# Altium integrated library Altera Cyclone II.IntLib: 234 symbols (part 16 of 38)
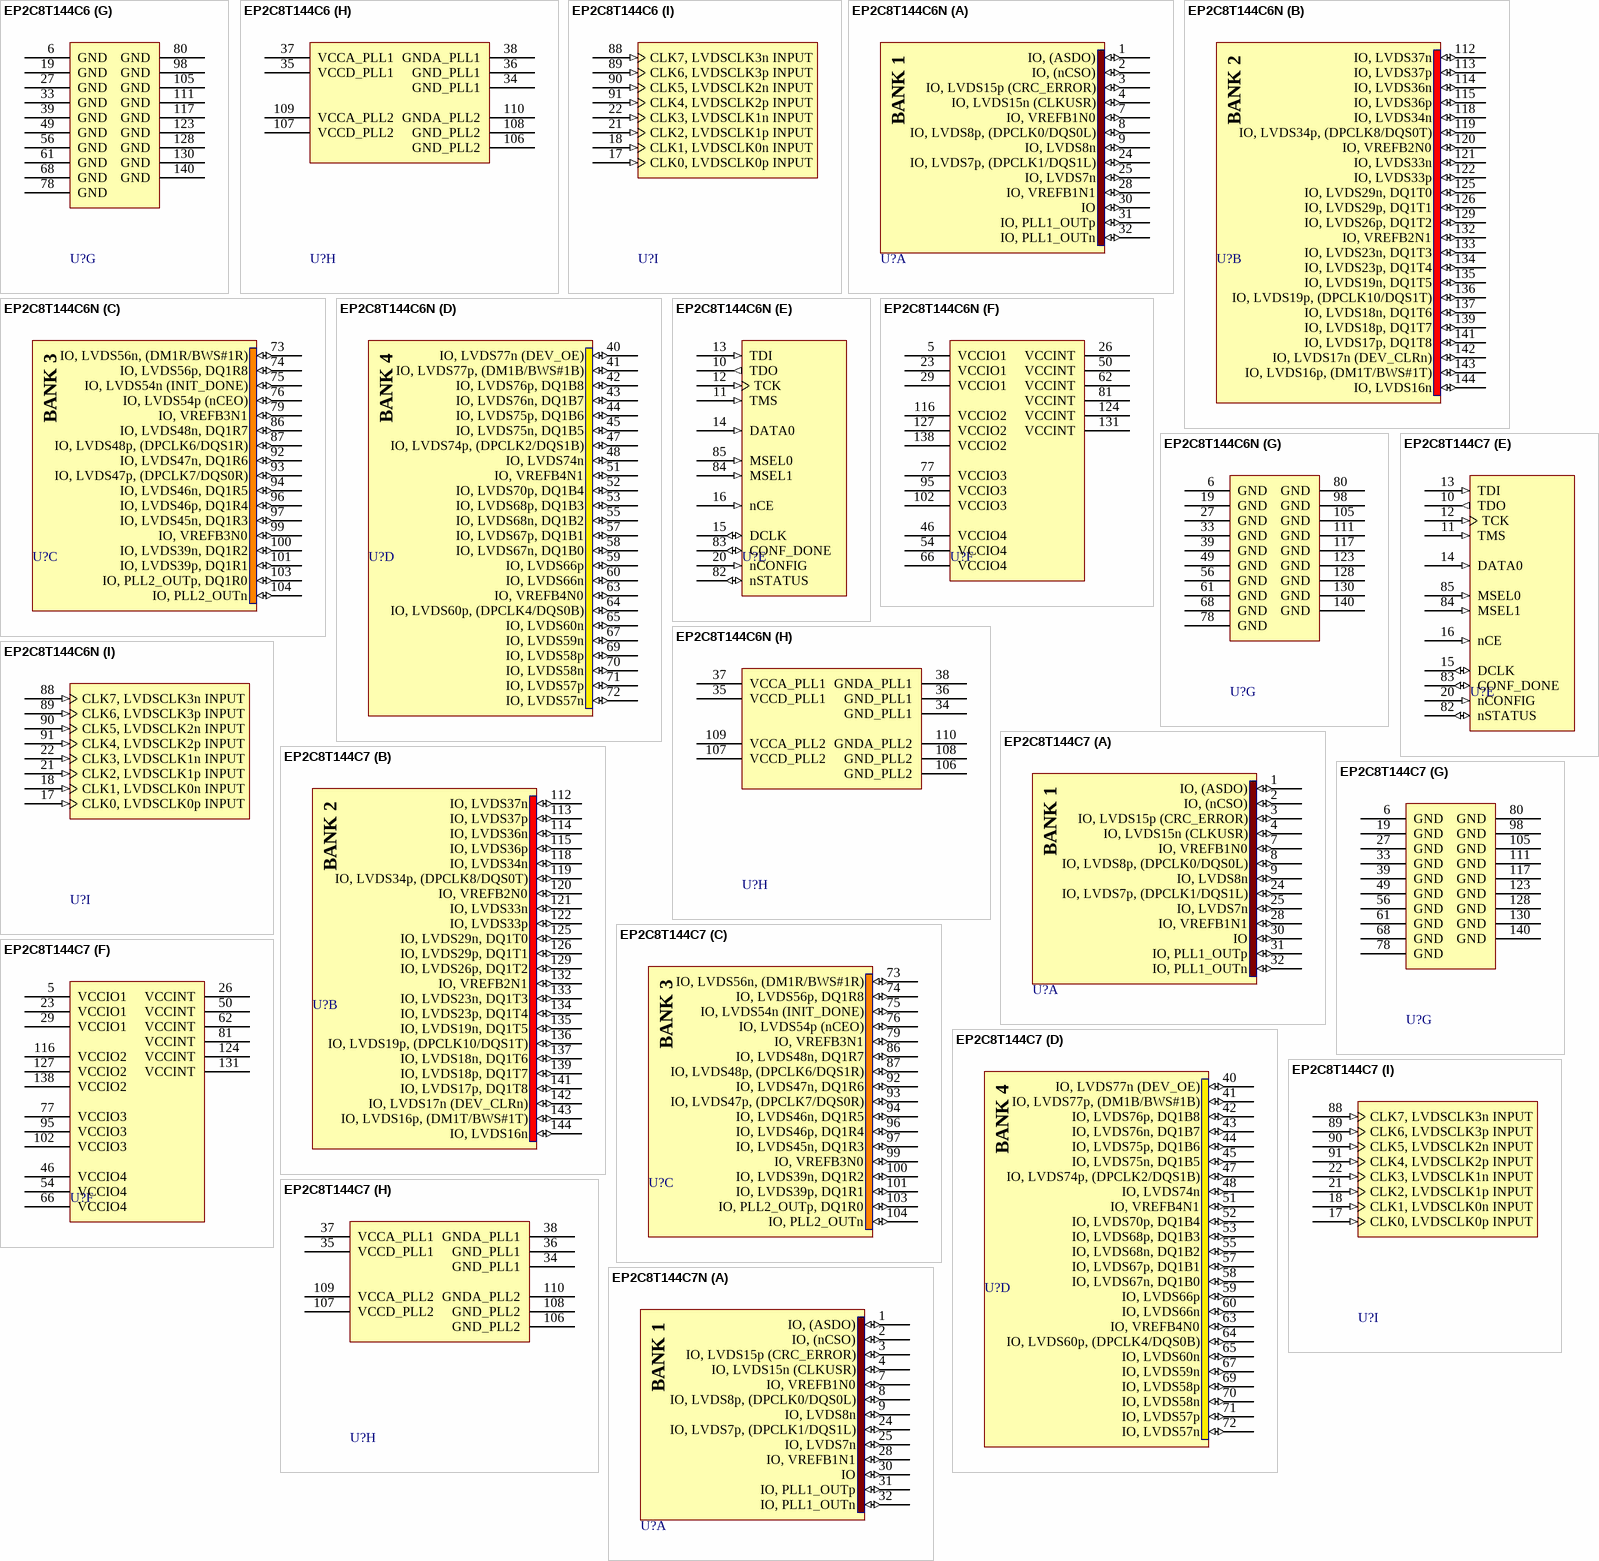
[diagram p407: symbols EP2C8T144C6 to EP2C8T144C7N]

## EP2C8T144C6
designator U?
Cyclone II Family, 1.2V FPGA, 85 I/O Pins, 2 PLLs, 144-Pin TQFP, Speed Grade 6, Commercial Grade; DatasheetVersion: ver3.3, Feb-2008; PackageVersion: ver16.3, Dec-2010; PackageReference: TQFP144; PackageDescription: 144-Pin Plastic Thin Quad Flat Pack (TQFP144) - Wire Bond; Code_JEDEC: MS-026-BFB; ComponentLink1Description: Manufacturer URL; ComponentLink1URL: http://www.altera.com/; ComponentLink2Description: Handbook; ComponentLink2URL: http://www.altera.com/literature/hb/cyc2/cyc2_cii5v1.pdf; ComponentLink3Description: Package Specification; ComponentLink3URL: http://www.altera.com/literature/ds/dspkg.pdf
footprint TQFP144_N (Thin QFP, 144-Leads, Body 20x20mm, Pitch 0.5mm, IPC Medium Density)
footprint TQFP144_L (Thin QFP, 144-Leads, Body 20x20mm, Pitch 0.5mm, IPC High Density)
footprint TQFP144_M (Thin QFP, 144-Leads, Body 20x20mm, Pitch 0.5mm, IPC Low Density)
part A pins: 1 IO, (ASDO) (io), 2 IO, (nCSO) (io), 3 IO, LVDS15p (CRC_ERROR) (io), 4 IO, LVDS15n (CLKUSR) (io), 7 IO, VREFB1N0 (io), 8 IO, LVDS8p, (DPCLK0/DQS0L) (io), 9 IO, LVDS8n (io), 24 IO, LVDS7p, (DPCLK1/DQS1L) (io), 25 IO, LVDS7n (io), 28 IO, VREFB1N1 (io), 30 IO (io), 31 IO, PLL1_OUTp (io), 32 IO, PLL1_OUTn (io)
part B pins: 112 IO, LVDS37n (io), 113 IO, LVDS37p (io), 114 IO, LVDS36n (io), 115 IO, LVDS36p (io), 118 IO, LVDS34n (io), 119 IO, LVDS34p, (DPCLK8/DQS0T) (io), 120 IO, VREFB2N0 (io), 121 IO, LVDS33n (io), 122 IO, LVDS33p (io), 125 IO, LVDS29n, DQ1T0 (io), 126 IO, LVDS29p, DQ1T1 (io), 129 IO, LVDS26p, DQ1T2 (io), 132 IO, VREFB2N1 (io), 133 IO, LVDS23n, DQ1T3 (io), 134 IO, LVDS23p, DQ1T4 (io), 135 IO, LVDS19n, DQ1T5 (io), 136 IO, LVDS19p, (DPCLK10/DQS1T) (io), 137 IO, LVDS18n, DQ1T6 (io), 139 IO, LVDS18p, DQ1T7 (io), 141 IO, LVDS17p, DQ1T8 (io), 142 IO, LVDS17n (DEV_CLRn) (io), 143 IO, LVDS16p, (DM1T/BWS#1T) (io), 144 IO, LVDS16n (io)
part C pins: 73 IO, LVDS56n, (DM1R/BWS#1R) (io), 74 IO, LVDS56p, DQ1R8 (io), 75 IO, LVDS54n (INIT_DONE) (io), 76 IO, LVDS54p (nCEO) (io), 79 IO, VREFB3N1 (io), 86 IO, LVDS48n, DQ1R7 (io), 87 IO, LVDS48p, (DPCLK6/DQS1R) (io), 92 IO, LVDS47n, DQ1R6 (io), 93 IO, LVDS47p, (DPCLK7/DQS0R) (io), 94 IO, LVDS46n, DQ1R5 (io), 96 IO, LVDS46p, DQ1R4 (io), 97 IO, LVDS45n, DQ1R3 (io), 99 IO, VREFB3N0 (io), 100 IO, LVDS39n, DQ1R2 (io), 101 IO, LVDS39p, DQ1R1 (io), 103 IO, PLL2_OUTp, DQ1R0 (io), 104 IO, PLL2_OUTn (io)
part D pins: 40 IO, LVDS77n (DEV_OE) (io), 41 IO, LVDS77p, (DM1B/BWS#1B) (io), 42 IO, LVDS76p, DQ1B8 (io), 43 IO, LVDS76n, DQ1B7 (io), 44 IO, LVDS75p, DQ1B6 (io), 45 IO, LVDS75n, DQ1B5 (io), 47 IO, LVDS74p, (DPCLK2/DQS1B) (io), 48 IO, LVDS74n (io), 51 IO, VREFB4N1 (io), 52 IO, LVDS70p, DQ1B4 (io), 53 IO, LVDS68p, DQ1B3 (io), 55 IO, LVDS68n, DQ1B2 (io), 57 IO, LVDS67p, DQ1B1 (io), 58 IO, LVDS67n, DQ1B0 (io), 59 IO, LVDS66p (io), 60 IO, LVDS66n (io), 63 IO, VREFB4N0 (io), 64 IO, LVDS60p, (DPCLK4/DQS0B) (io), 65 IO, LVDS60n (io), 67 IO, LVDS59n (io), 69 IO, LVDS58p (io), 70 IO, LVDS58n (io), 71 IO, LVDS57p (io), 72 IO, LVDS57n (io)
part E pins: 10 TDO (out), 11 TMS (in), 12 TCK (in), 13 TDI (in), 14 DATA0 (in), 15 DCLK (io), 16 nCE (in), 20 nCONFIG (in), 82 nSTATUS (io), 83 CONF_DONE (io), 84 MSEL1 (in), 85 MSEL0 (in)
part F pins: 5 VCCIO1 (power), 23 VCCIO1 (power), 26 VCCINT (power), 29 VCCIO1 (power), 46 VCCIO4 (power), 50 VCCINT (power), 54 VCCIO4 (power), 62 VCCINT (power), 66 VCCIO4 (power), 77 VCCIO3 (power), 81 VCCINT (power), 95 VCCIO3 (power), 102 VCCIO3 (power), 116 VCCIO2 (power), 124 VCCINT (power), 127 VCCIO2 (power), 131 VCCINT (power), 138 VCCIO2 (power)
part G pins: 6 GND (power), 19 GND (power), 27 GND (power), 33 GND (power), 39 GND (power), 49 GND (power), 56 GND (power), 61 GND (power), 68 GND (power), 78 GND (power), 80 GND (power), 98 GND (power), 105 GND (power), 111 GND (power), 117 GND (power), 123 GND (power), 128 GND (power), 130 GND (power), 140 GND (power)
part H pins: 34 GND_PLL1 (power), 35 VCCD_PLL1 (power), 36 GND_PLL1 (power), 37 VCCA_PLL1 (power), 38 GNDA_PLL1 (power), 106 GND_PLL2 (power), 107 VCCD_PLL2 (power), 108 GND_PLL2 (power), 109 VCCA_PLL2 (power), 110 GNDA_PLL2 (power)
part I pins: 17 CLK0, LVDSCLK0p INPUT (in), 18 CLK1, LVDSCLK0n INPUT (in), 21 CLK2, LVDSCLK1p INPUT (in), 22 CLK3, LVDSCLK1n INPUT (in), 88 CLK7, LVDSCLK3n INPUT (in), 89 CLK6, LVDSCLK3p INPUT (in), 90 CLK5, LVDSCLK2n INPUT (in), 91 CLK4, LVDSCLK2p INPUT (in)
part A text: BANK 1
part B text: BANK 2
part C text: BANK 3
part D text: BANK 4

## EP2C8T144C6N
designator U?
Cyclone II Family, 1.2V FPGA, 85 I/O Pins, 2 PLLs, 144-Pin TQFP, Speed Grade 6, Commercial Grade, Pb-Free; DatasheetVersion: ver3.3, Feb-2008; PackageVersion: ver16.3, Dec-2010; PackageReference: TQFP144; PackageDescription: 144-Pin Plastic Thin Quad Flat Pack (TQFP144) - Wire Bond; Code_JEDEC: MS-026-BFB; ComponentLink1Description: Manufacturer URL; ComponentLink1URL: http://www.altera.com/; ComponentLink2Description: Handbook; ComponentLink2URL: http://www.altera.com/literature/hb/cyc2/cyc2_cii5v1.pdf; ComponentLink3Description: Package Specification; ComponentLink3URL: http://www.altera.com/literature/ds/dspkg.pdf
footprint TQFP144_N (Thin QFP, 144-Leads, Body 20x20mm, Pitch 0.5mm, IPC Medium Density)
footprint TQFP144_L (Thin QFP, 144-Leads, Body 20x20mm, Pitch 0.5mm, IPC High Density)
footprint TQFP144_M (Thin QFP, 144-Leads, Body 20x20mm, Pitch 0.5mm, IPC Low Density)
part A pins: 1 IO, (ASDO) (io), 2 IO, (nCSO) (io), 3 IO, LVDS15p (CRC_ERROR) (io), 4 IO, LVDS15n (CLKUSR) (io), 7 IO, VREFB1N0 (io), 8 IO, LVDS8p, (DPCLK0/DQS0L) (io), 9 IO, LVDS8n (io), 24 IO, LVDS7p, (DPCLK1/DQS1L) (io), 25 IO, LVDS7n (io), 28 IO, VREFB1N1 (io), 30 IO (io), 31 IO, PLL1_OUTp (io), 32 IO, PLL1_OUTn (io)
part B pins: 112 IO, LVDS37n (io), 113 IO, LVDS37p (io), 114 IO, LVDS36n (io), 115 IO, LVDS36p (io), 118 IO, LVDS34n (io), 119 IO, LVDS34p, (DPCLK8/DQS0T) (io), 120 IO, VREFB2N0 (io), 121 IO, LVDS33n (io), 122 IO, LVDS33p (io), 125 IO, LVDS29n, DQ1T0 (io), 126 IO, LVDS29p, DQ1T1 (io), 129 IO, LVDS26p, DQ1T2 (io), 132 IO, VREFB2N1 (io), 133 IO, LVDS23n, DQ1T3 (io), 134 IO, LVDS23p, DQ1T4 (io), 135 IO, LVDS19n, DQ1T5 (io), 136 IO, LVDS19p, (DPCLK10/DQS1T) (io), 137 IO, LVDS18n, DQ1T6 (io), 139 IO, LVDS18p, DQ1T7 (io), 141 IO, LVDS17p, DQ1T8 (io), 142 IO, LVDS17n (DEV_CLRn) (io), 143 IO, LVDS16p, (DM1T/BWS#1T) (io), 144 IO, LVDS16n (io)
part C pins: 73 IO, LVDS56n, (DM1R/BWS#1R) (io), 74 IO, LVDS56p, DQ1R8 (io), 75 IO, LVDS54n (INIT_DONE) (io), 76 IO, LVDS54p (nCEO) (io), 79 IO, VREFB3N1 (io), 86 IO, LVDS48n, DQ1R7 (io), 87 IO, LVDS48p, (DPCLK6/DQS1R) (io), 92 IO, LVDS47n, DQ1R6 (io), 93 IO, LVDS47p, (DPCLK7/DQS0R) (io), 94 IO, LVDS46n, DQ1R5 (io), 96 IO, LVDS46p, DQ1R4 (io), 97 IO, LVDS45n, DQ1R3 (io), 99 IO, VREFB3N0 (io), 100 IO, LVDS39n, DQ1R2 (io), 101 IO, LVDS39p, DQ1R1 (io), 103 IO, PLL2_OUTp, DQ1R0 (io), 104 IO, PLL2_OUTn (io)
part D pins: 40 IO, LVDS77n (DEV_OE) (io), 41 IO, LVDS77p, (DM1B/BWS#1B) (io), 42 IO, LVDS76p, DQ1B8 (io), 43 IO, LVDS76n, DQ1B7 (io), 44 IO, LVDS75p, DQ1B6 (io), 45 IO, LVDS75n, DQ1B5 (io), 47 IO, LVDS74p, (DPCLK2/DQS1B) (io), 48 IO, LVDS74n (io), 51 IO, VREFB4N1 (io), 52 IO, LVDS70p, DQ1B4 (io), 53 IO, LVDS68p, DQ1B3 (io), 55 IO, LVDS68n, DQ1B2 (io), 57 IO, LVDS67p, DQ1B1 (io), 58 IO, LVDS67n, DQ1B0 (io), 59 IO, LVDS66p (io), 60 IO, LVDS66n (io), 63 IO, VREFB4N0 (io), 64 IO, LVDS60p, (DPCLK4/DQS0B) (io), 65 IO, LVDS60n (io), 67 IO, LVDS59n (io), 69 IO, LVDS58p (io), 70 IO, LVDS58n (io), 71 IO, LVDS57p (io), 72 IO, LVDS57n (io)
part E pins: 10 TDO (out), 11 TMS (in), 12 TCK (in), 13 TDI (in), 14 DATA0 (in), 15 DCLK (io), 16 nCE (in), 20 nCONFIG (in), 82 nSTATUS (io), 83 CONF_DONE (io), 84 MSEL1 (in), 85 MSEL0 (in)
part F pins: 5 VCCIO1 (power), 23 VCCIO1 (power), 26 VCCINT (power), 29 VCCIO1 (power), 46 VCCIO4 (power), 50 VCCINT (power), 54 VCCIO4 (power), 62 VCCINT (power), 66 VCCIO4 (power), 77 VCCIO3 (power), 81 VCCINT (power), 95 VCCIO3 (power), 102 VCCIO3 (power), 116 VCCIO2 (power), 124 VCCINT (power), 127 VCCIO2 (power), 131 VCCINT (power), 138 VCCIO2 (power)
part G pins: 6 GND (power), 19 GND (power), 27 GND (power), 33 GND (power), 39 GND (power), 49 GND (power), 56 GND (power), 61 GND (power), 68 GND (power), 78 GND (power), 80 GND (power), 98 GND (power), 105 GND (power), 111 GND (power), 117 GND (power), 123 GND (power), 128 GND (power), 130 GND (power), 140 GND (power)
part H pins: 34 GND_PLL1 (power), 35 VCCD_PLL1 (power), 36 GND_PLL1 (power), 37 VCCA_PLL1 (power), 38 GNDA_PLL1 (power), 106 GND_PLL2 (power), 107 VCCD_PLL2 (power), 108 GND_PLL2 (power), 109 VCCA_PLL2 (power), 110 GNDA_PLL2 (power)
part I pins: 17 CLK0, LVDSCLK0p INPUT (in), 18 CLK1, LVDSCLK0n INPUT (in), 21 CLK2, LVDSCLK1p INPUT (in), 22 CLK3, LVDSCLK1n INPUT (in), 88 CLK7, LVDSCLK3n INPUT (in), 89 CLK6, LVDSCLK3p INPUT (in), 90 CLK5, LVDSCLK2n INPUT (in), 91 CLK4, LVDSCLK2p INPUT (in)
part A text: BANK 1
part B text: BANK 2
part C text: BANK 3
part D text: BANK 4

## EP2C8T144C7
designator U?
Cyclone II Family, 1.2V FPGA, 85 I/O Pins, 2 PLLs, 144-Pin TQFP, Speed Grade 7, Commercial Grade; DatasheetVersion: ver3.3, Feb-2008; PackageVersion: ver16.3, Dec-2010; PackageReference: TQFP144; PackageDescription: 144-Pin Plastic Thin Quad Flat Pack (TQFP144) - Wire Bond; Code_JEDEC: MS-026-BFB; ComponentLink1Description: Manufacturer URL; ComponentLink1URL: http://www.altera.com/; ComponentLink2Description: Handbook; ComponentLink2URL: http://www.altera.com/literature/hb/cyc2/cyc2_cii5v1.pdf; ComponentLink3Description: Package Specification; ComponentLink3URL: http://www.altera.com/literature/ds/dspkg.pdf
footprint TQFP144_N (Thin QFP, 144-Leads, Body 20x20mm, Pitch 0.5mm, IPC Medium Density)
footprint TQFP144_L (Thin QFP, 144-Leads, Body 20x20mm, Pitch 0.5mm, IPC High Density)
footprint TQFP144_M (Thin QFP, 144-Leads, Body 20x20mm, Pitch 0.5mm, IPC Low Density)
part A pins: 1 IO, (ASDO) (io), 2 IO, (nCSO) (io), 3 IO, LVDS15p (CRC_ERROR) (io), 4 IO, LVDS15n (CLKUSR) (io), 7 IO, VREFB1N0 (io), 8 IO, LVDS8p, (DPCLK0/DQS0L) (io), 9 IO, LVDS8n (io), 24 IO, LVDS7p, (DPCLK1/DQS1L) (io), 25 IO, LVDS7n (io), 28 IO, VREFB1N1 (io), 30 IO (io), 31 IO, PLL1_OUTp (io), 32 IO, PLL1_OUTn (io)
part B pins: 112 IO, LVDS37n (io), 113 IO, LVDS37p (io), 114 IO, LVDS36n (io), 115 IO, LVDS36p (io), 118 IO, LVDS34n (io), 119 IO, LVDS34p, (DPCLK8/DQS0T) (io), 120 IO, VREFB2N0 (io), 121 IO, LVDS33n (io), 122 IO, LVDS33p (io), 125 IO, LVDS29n, DQ1T0 (io), 126 IO, LVDS29p, DQ1T1 (io), 129 IO, LVDS26p, DQ1T2 (io), 132 IO, VREFB2N1 (io), 133 IO, LVDS23n, DQ1T3 (io), 134 IO, LVDS23p, DQ1T4 (io), 135 IO, LVDS19n, DQ1T5 (io), 136 IO, LVDS19p, (DPCLK10/DQS1T) (io), 137 IO, LVDS18n, DQ1T6 (io), 139 IO, LVDS18p, DQ1T7 (io), 141 IO, LVDS17p, DQ1T8 (io), 142 IO, LVDS17n (DEV_CLRn) (io), 143 IO, LVDS16p, (DM1T/BWS#1T) (io), 144 IO, LVDS16n (io)
part C pins: 73 IO, LVDS56n, (DM1R/BWS#1R) (io), 74 IO, LVDS56p, DQ1R8 (io), 75 IO, LVDS54n (INIT_DONE) (io), 76 IO, LVDS54p (nCEO) (io), 79 IO, VREFB3N1 (io), 86 IO, LVDS48n, DQ1R7 (io), 87 IO, LVDS48p, (DPCLK6/DQS1R) (io), 92 IO, LVDS47n, DQ1R6 (io), 93 IO, LVDS47p, (DPCLK7/DQS0R) (io), 94 IO, LVDS46n, DQ1R5 (io), 96 IO, LVDS46p, DQ1R4 (io), 97 IO, LVDS45n, DQ1R3 (io), 99 IO, VREFB3N0 (io), 100 IO, LVDS39n, DQ1R2 (io), 101 IO, LVDS39p, DQ1R1 (io), 103 IO, PLL2_OUTp, DQ1R0 (io), 104 IO, PLL2_OUTn (io)
part D pins: 40 IO, LVDS77n (DEV_OE) (io), 41 IO, LVDS77p, (DM1B/BWS#1B) (io), 42 IO, LVDS76p, DQ1B8 (io), 43 IO, LVDS76n, DQ1B7 (io), 44 IO, LVDS75p, DQ1B6 (io), 45 IO, LVDS75n, DQ1B5 (io), 47 IO, LVDS74p, (DPCLK2/DQS1B) (io), 48 IO, LVDS74n (io), 51 IO, VREFB4N1 (io), 52 IO, LVDS70p, DQ1B4 (io), 53 IO, LVDS68p, DQ1B3 (io), 55 IO, LVDS68n, DQ1B2 (io), 57 IO, LVDS67p, DQ1B1 (io), 58 IO, LVDS67n, DQ1B0 (io), 59 IO, LVDS66p (io), 60 IO, LVDS66n (io), 63 IO, VREFB4N0 (io), 64 IO, LVDS60p, (DPCLK4/DQS0B) (io), 65 IO, LVDS60n (io), 67 IO, LVDS59n (io), 69 IO, LVDS58p (io), 70 IO, LVDS58n (io), 71 IO, LVDS57p (io), 72 IO, LVDS57n (io)
part E pins: 10 TDO (out), 11 TMS (in), 12 TCK (in), 13 TDI (in), 14 DATA0 (in), 15 DCLK (io), 16 nCE (in), 20 nCONFIG (in), 82 nSTATUS (io), 83 CONF_DONE (io), 84 MSEL1 (in), 85 MSEL0 (in)
part F pins: 5 VCCIO1 (power), 23 VCCIO1 (power), 26 VCCINT (power), 29 VCCIO1 (power), 46 VCCIO4 (power), 50 VCCINT (power), 54 VCCIO4 (power), 62 VCCINT (power), 66 VCCIO4 (power), 77 VCCIO3 (power), 81 VCCINT (power), 95 VCCIO3 (power), 102 VCCIO3 (power), 116 VCCIO2 (power), 124 VCCINT (power), 127 VCCIO2 (power), 131 VCCINT (power), 138 VCCIO2 (power)
part G pins: 6 GND (power), 19 GND (power), 27 GND (power), 33 GND (power), 39 GND (power), 49 GND (power), 56 GND (power), 61 GND (power), 68 GND (power), 78 GND (power), 80 GND (power), 98 GND (power), 105 GND (power), 111 GND (power), 117 GND (power), 123 GND (power), 128 GND (power), 130 GND (power), 140 GND (power)
part H pins: 34 GND_PLL1 (power), 35 VCCD_PLL1 (power), 36 GND_PLL1 (power), 37 VCCA_PLL1 (power), 38 GNDA_PLL1 (power), 106 GND_PLL2 (power), 107 VCCD_PLL2 (power), 108 GND_PLL2 (power), 109 VCCA_PLL2 (power), 110 GNDA_PLL2 (power)
part I pins: 17 CLK0, LVDSCLK0p INPUT (in), 18 CLK1, LVDSCLK0n INPUT (in), 21 CLK2, LVDSCLK1p INPUT (in), 22 CLK3, LVDSCLK1n INPUT (in), 88 CLK7, LVDSCLK3n INPUT (in), 89 CLK6, LVDSCLK3p INPUT (in), 90 CLK5, LVDSCLK2n INPUT (in), 91 CLK4, LVDSCLK2p INPUT (in)
part A text: BANK 1
part B text: BANK 2
part C text: BANK 3
part D text: BANK 4

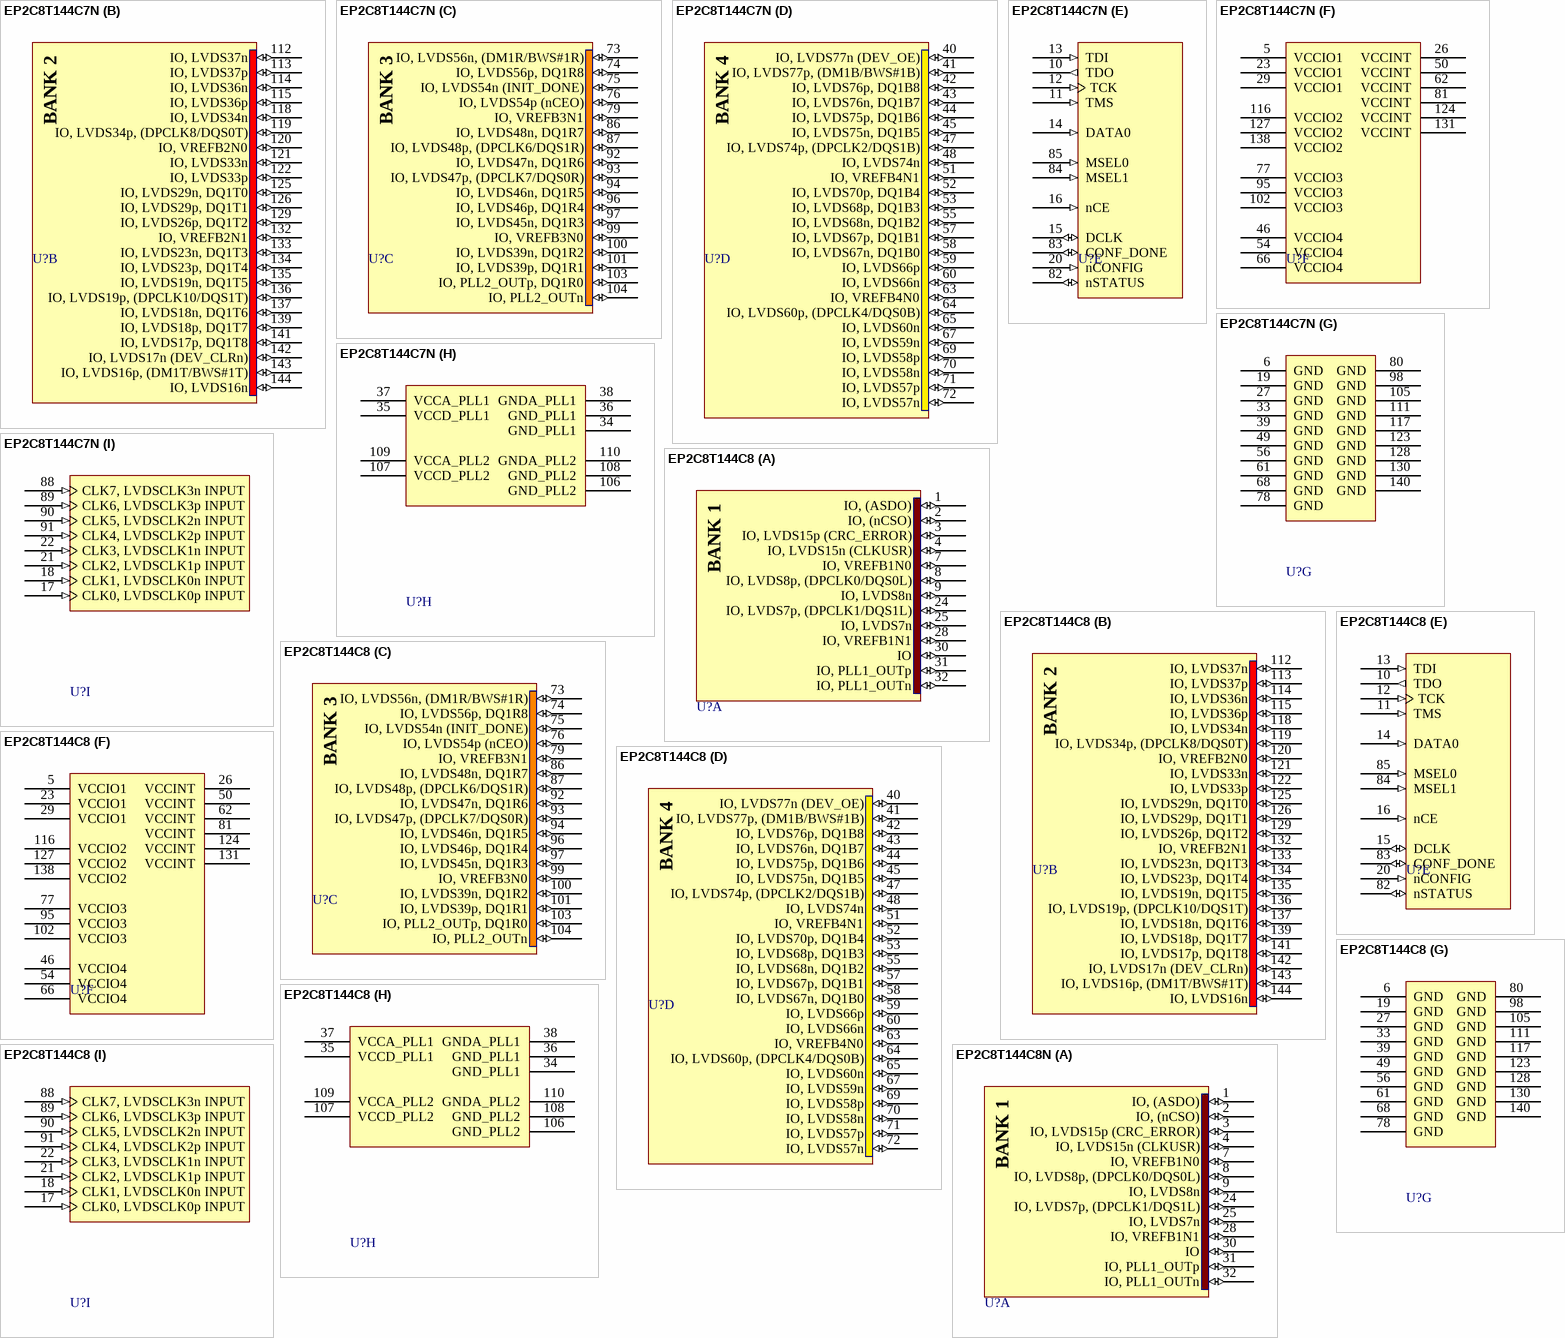
[diagram p61: symbols EP2C8T144C7N to EP2C8T144C8N]

## EP2C8T144C7N
designator U?
Cyclone II Family, 1.2V FPGA, 85 I/O Pins, 2 PLLs, 144-Pin TQFP, Speed Grade 7, Commercial Grade, Pb-Free; DatasheetVersion: ver3.3, Feb-2008; PackageVersion: ver16.3, Dec-2010; PackageReference: TQFP144; PackageDescription: 144-Pin Plastic Thin Quad Flat Pack (TQFP144) - Wire Bond; Code_JEDEC: MS-026-BFB; ComponentLink1Description: Manufacturer URL; ComponentLink1URL: http://www.altera.com/; ComponentLink2Description: Handbook; ComponentLink2URL: http://www.altera.com/literature/hb/cyc2/cyc2_cii5v1.pdf; ComponentLink3Description: Package Specification; ComponentLink3URL: http://www.altera.com/literature/ds/dspkg.pdf
footprint TQFP144_N (Thin QFP, 144-Leads, Body 20x20mm, Pitch 0.5mm, IPC Medium Density)
footprint TQFP144_L (Thin QFP, 144-Leads, Body 20x20mm, Pitch 0.5mm, IPC High Density)
footprint TQFP144_M (Thin QFP, 144-Leads, Body 20x20mm, Pitch 0.5mm, IPC Low Density)
part A pins: 1 IO, (ASDO) (io), 2 IO, (nCSO) (io), 3 IO, LVDS15p (CRC_ERROR) (io), 4 IO, LVDS15n (CLKUSR) (io), 7 IO, VREFB1N0 (io), 8 IO, LVDS8p, (DPCLK0/DQS0L) (io), 9 IO, LVDS8n (io), 24 IO, LVDS7p, (DPCLK1/DQS1L) (io), 25 IO, LVDS7n (io), 28 IO, VREFB1N1 (io), 30 IO (io), 31 IO, PLL1_OUTp (io), 32 IO, PLL1_OUTn (io)
part B pins: 112 IO, LVDS37n (io), 113 IO, LVDS37p (io), 114 IO, LVDS36n (io), 115 IO, LVDS36p (io), 118 IO, LVDS34n (io), 119 IO, LVDS34p, (DPCLK8/DQS0T) (io), 120 IO, VREFB2N0 (io), 121 IO, LVDS33n (io), 122 IO, LVDS33p (io), 125 IO, LVDS29n, DQ1T0 (io), 126 IO, LVDS29p, DQ1T1 (io), 129 IO, LVDS26p, DQ1T2 (io), 132 IO, VREFB2N1 (io), 133 IO, LVDS23n, DQ1T3 (io), 134 IO, LVDS23p, DQ1T4 (io), 135 IO, LVDS19n, DQ1T5 (io), 136 IO, LVDS19p, (DPCLK10/DQS1T) (io), 137 IO, LVDS18n, DQ1T6 (io), 139 IO, LVDS18p, DQ1T7 (io), 141 IO, LVDS17p, DQ1T8 (io), 142 IO, LVDS17n (DEV_CLRn) (io), 143 IO, LVDS16p, (DM1T/BWS#1T) (io), 144 IO, LVDS16n (io)
part C pins: 73 IO, LVDS56n, (DM1R/BWS#1R) (io), 74 IO, LVDS56p, DQ1R8 (io), 75 IO, LVDS54n (INIT_DONE) (io), 76 IO, LVDS54p (nCEO) (io), 79 IO, VREFB3N1 (io), 86 IO, LVDS48n, DQ1R7 (io), 87 IO, LVDS48p, (DPCLK6/DQS1R) (io), 92 IO, LVDS47n, DQ1R6 (io), 93 IO, LVDS47p, (DPCLK7/DQS0R) (io), 94 IO, LVDS46n, DQ1R5 (io), 96 IO, LVDS46p, DQ1R4 (io), 97 IO, LVDS45n, DQ1R3 (io), 99 IO, VREFB3N0 (io), 100 IO, LVDS39n, DQ1R2 (io), 101 IO, LVDS39p, DQ1R1 (io), 103 IO, PLL2_OUTp, DQ1R0 (io), 104 IO, PLL2_OUTn (io)
part D pins: 40 IO, LVDS77n (DEV_OE) (io), 41 IO, LVDS77p, (DM1B/BWS#1B) (io), 42 IO, LVDS76p, DQ1B8 (io), 43 IO, LVDS76n, DQ1B7 (io), 44 IO, LVDS75p, DQ1B6 (io), 45 IO, LVDS75n, DQ1B5 (io), 47 IO, LVDS74p, (DPCLK2/DQS1B) (io), 48 IO, LVDS74n (io), 51 IO, VREFB4N1 (io), 52 IO, LVDS70p, DQ1B4 (io), 53 IO, LVDS68p, DQ1B3 (io), 55 IO, LVDS68n, DQ1B2 (io), 57 IO, LVDS67p, DQ1B1 (io), 58 IO, LVDS67n, DQ1B0 (io), 59 IO, LVDS66p (io), 60 IO, LVDS66n (io), 63 IO, VREFB4N0 (io), 64 IO, LVDS60p, (DPCLK4/DQS0B) (io), 65 IO, LVDS60n (io), 67 IO, LVDS59n (io), 69 IO, LVDS58p (io), 70 IO, LVDS58n (io), 71 IO, LVDS57p (io), 72 IO, LVDS57n (io)
part E pins: 10 TDO (out), 11 TMS (in), 12 TCK (in), 13 TDI (in), 14 DATA0 (in), 15 DCLK (io), 16 nCE (in), 20 nCONFIG (in), 82 nSTATUS (io), 83 CONF_DONE (io), 84 MSEL1 (in), 85 MSEL0 (in)
part F pins: 5 VCCIO1 (power), 23 VCCIO1 (power), 26 VCCINT (power), 29 VCCIO1 (power), 46 VCCIO4 (power), 50 VCCINT (power), 54 VCCIO4 (power), 62 VCCINT (power), 66 VCCIO4 (power), 77 VCCIO3 (power), 81 VCCINT (power), 95 VCCIO3 (power), 102 VCCIO3 (power), 116 VCCIO2 (power), 124 VCCINT (power), 127 VCCIO2 (power), 131 VCCINT (power), 138 VCCIO2 (power)
part G pins: 6 GND (power), 19 GND (power), 27 GND (power), 33 GND (power), 39 GND (power), 49 GND (power), 56 GND (power), 61 GND (power), 68 GND (power), 78 GND (power), 80 GND (power), 98 GND (power), 105 GND (power), 111 GND (power), 117 GND (power), 123 GND (power), 128 GND (power), 130 GND (power), 140 GND (power)
part H pins: 34 GND_PLL1 (power), 35 VCCD_PLL1 (power), 36 GND_PLL1 (power), 37 VCCA_PLL1 (power), 38 GNDA_PLL1 (power), 106 GND_PLL2 (power), 107 VCCD_PLL2 (power), 108 GND_PLL2 (power), 109 VCCA_PLL2 (power), 110 GNDA_PLL2 (power)
part I pins: 17 CLK0, LVDSCLK0p INPUT (in), 18 CLK1, LVDSCLK0n INPUT (in), 21 CLK2, LVDSCLK1p INPUT (in), 22 CLK3, LVDSCLK1n INPUT (in), 88 CLK7, LVDSCLK3n INPUT (in), 89 CLK6, LVDSCLK3p INPUT (in), 90 CLK5, LVDSCLK2n INPUT (in), 91 CLK4, LVDSCLK2p INPUT (in)
part A text: BANK 1
part B text: BANK 2
part C text: BANK 3
part D text: BANK 4

## EP2C8T144C8
designator U?
Cyclone II Family, 1.2V FPGA, 85 I/O Pins, 2 PLLs, 144-Pin TQFP, Speed Grade 8, Commercial Grade; DatasheetVersion: ver3.3, Feb-2008; PackageVersion: ver16.3, Dec-2010; PackageReference: TQFP144; PackageDescription: 144-Pin Plastic Thin Quad Flat Pack (TQFP144) - Wire Bond; Code_JEDEC: MS-026-BFB; ComponentLink1Description: Manufacturer URL; ComponentLink1URL: http://www.altera.com/; ComponentLink2Description: Handbook; ComponentLink2URL: http://www.altera.com/literature/hb/cyc2/cyc2_cii5v1.pdf; ComponentLink3Description: Package Specification; ComponentLink3URL: http://www.altera.com/literature/ds/dspkg.pdf
footprint TQFP144_N (Thin QFP, 144-Leads, Body 20x20mm, Pitch 0.5mm, IPC Medium Density)
footprint TQFP144_L (Thin QFP, 144-Leads, Body 20x20mm, Pitch 0.5mm, IPC High Density)
footprint TQFP144_M (Thin QFP, 144-Leads, Body 20x20mm, Pitch 0.5mm, IPC Low Density)
part A pins: 1 IO, (ASDO) (io), 2 IO, (nCSO) (io), 3 IO, LVDS15p (CRC_ERROR) (io), 4 IO, LVDS15n (CLKUSR) (io), 7 IO, VREFB1N0 (io), 8 IO, LVDS8p, (DPCLK0/DQS0L) (io), 9 IO, LVDS8n (io), 24 IO, LVDS7p, (DPCLK1/DQS1L) (io), 25 IO, LVDS7n (io), 28 IO, VREFB1N1 (io), 30 IO (io), 31 IO, PLL1_OUTp (io), 32 IO, PLL1_OUTn (io)
part B pins: 112 IO, LVDS37n (io), 113 IO, LVDS37p (io), 114 IO, LVDS36n (io), 115 IO, LVDS36p (io), 118 IO, LVDS34n (io), 119 IO, LVDS34p, (DPCLK8/DQS0T) (io), 120 IO, VREFB2N0 (io), 121 IO, LVDS33n (io), 122 IO, LVDS33p (io), 125 IO, LVDS29n, DQ1T0 (io), 126 IO, LVDS29p, DQ1T1 (io), 129 IO, LVDS26p, DQ1T2 (io), 132 IO, VREFB2N1 (io), 133 IO, LVDS23n, DQ1T3 (io), 134 IO, LVDS23p, DQ1T4 (io), 135 IO, LVDS19n, DQ1T5 (io), 136 IO, LVDS19p, (DPCLK10/DQS1T) (io), 137 IO, LVDS18n, DQ1T6 (io), 139 IO, LVDS18p, DQ1T7 (io), 141 IO, LVDS17p, DQ1T8 (io), 142 IO, LVDS17n (DEV_CLRn) (io), 143 IO, LVDS16p, (DM1T/BWS#1T) (io), 144 IO, LVDS16n (io)
part C pins: 73 IO, LVDS56n, (DM1R/BWS#1R) (io), 74 IO, LVDS56p, DQ1R8 (io), 75 IO, LVDS54n (INIT_DONE) (io), 76 IO, LVDS54p (nCEO) (io), 79 IO, VREFB3N1 (io), 86 IO, LVDS48n, DQ1R7 (io), 87 IO, LVDS48p, (DPCLK6/DQS1R) (io), 92 IO, LVDS47n, DQ1R6 (io), 93 IO, LVDS47p, (DPCLK7/DQS0R) (io), 94 IO, LVDS46n, DQ1R5 (io), 96 IO, LVDS46p, DQ1R4 (io), 97 IO, LVDS45n, DQ1R3 (io), 99 IO, VREFB3N0 (io), 100 IO, LVDS39n, DQ1R2 (io), 101 IO, LVDS39p, DQ1R1 (io), 103 IO, PLL2_OUTp, DQ1R0 (io), 104 IO, PLL2_OUTn (io)
part D pins: 40 IO, LVDS77n (DEV_OE) (io), 41 IO, LVDS77p, (DM1B/BWS#1B) (io), 42 IO, LVDS76p, DQ1B8 (io), 43 IO, LVDS76n, DQ1B7 (io), 44 IO, LVDS75p, DQ1B6 (io), 45 IO, LVDS75n, DQ1B5 (io), 47 IO, LVDS74p, (DPCLK2/DQS1B) (io), 48 IO, LVDS74n (io), 51 IO, VREFB4N1 (io), 52 IO, LVDS70p, DQ1B4 (io), 53 IO, LVDS68p, DQ1B3 (io), 55 IO, LVDS68n, DQ1B2 (io), 57 IO, LVDS67p, DQ1B1 (io), 58 IO, LVDS67n, DQ1B0 (io), 59 IO, LVDS66p (io), 60 IO, LVDS66n (io), 63 IO, VREFB4N0 (io), 64 IO, LVDS60p, (DPCLK4/DQS0B) (io), 65 IO, LVDS60n (io), 67 IO, LVDS59n (io), 69 IO, LVDS58p (io), 70 IO, LVDS58n (io), 71 IO, LVDS57p (io), 72 IO, LVDS57n (io)
part E pins: 10 TDO (out), 11 TMS (in), 12 TCK (in), 13 TDI (in), 14 DATA0 (in), 15 DCLK (io), 16 nCE (in), 20 nCONFIG (in), 82 nSTATUS (io), 83 CONF_DONE (io), 84 MSEL1 (in), 85 MSEL0 (in)
part F pins: 5 VCCIO1 (power), 23 VCCIO1 (power), 26 VCCINT (power), 29 VCCIO1 (power), 46 VCCIO4 (power), 50 VCCINT (power), 54 VCCIO4 (power), 62 VCCINT (power), 66 VCCIO4 (power), 77 VCCIO3 (power), 81 VCCINT (power), 95 VCCIO3 (power), 102 VCCIO3 (power), 116 VCCIO2 (power), 124 VCCINT (power), 127 VCCIO2 (power), 131 VCCINT (power), 138 VCCIO2 (power)
part G pins: 6 GND (power), 19 GND (power), 27 GND (power), 33 GND (power), 39 GND (power), 49 GND (power), 56 GND (power), 61 GND (power), 68 GND (power), 78 GND (power), 80 GND (power), 98 GND (power), 105 GND (power), 111 GND (power), 117 GND (power), 123 GND (power), 128 GND (power), 130 GND (power), 140 GND (power)
part H pins: 34 GND_PLL1 (power), 35 VCCD_PLL1 (power), 36 GND_PLL1 (power), 37 VCCA_PLL1 (power), 38 GNDA_PLL1 (power), 106 GND_PLL2 (power), 107 VCCD_PLL2 (power), 108 GND_PLL2 (power), 109 VCCA_PLL2 (power), 110 GNDA_PLL2 (power)
part I pins: 17 CLK0, LVDSCLK0p INPUT (in), 18 CLK1, LVDSCLK0n INPUT (in), 21 CLK2, LVDSCLK1p INPUT (in), 22 CLK3, LVDSCLK1n INPUT (in), 88 CLK7, LVDSCLK3n INPUT (in), 89 CLK6, LVDSCLK3p INPUT (in), 90 CLK5, LVDSCLK2n INPUT (in), 91 CLK4, LVDSCLK2p INPUT (in)
part A text: BANK 1
part B text: BANK 2
part C text: BANK 3
part D text: BANK 4

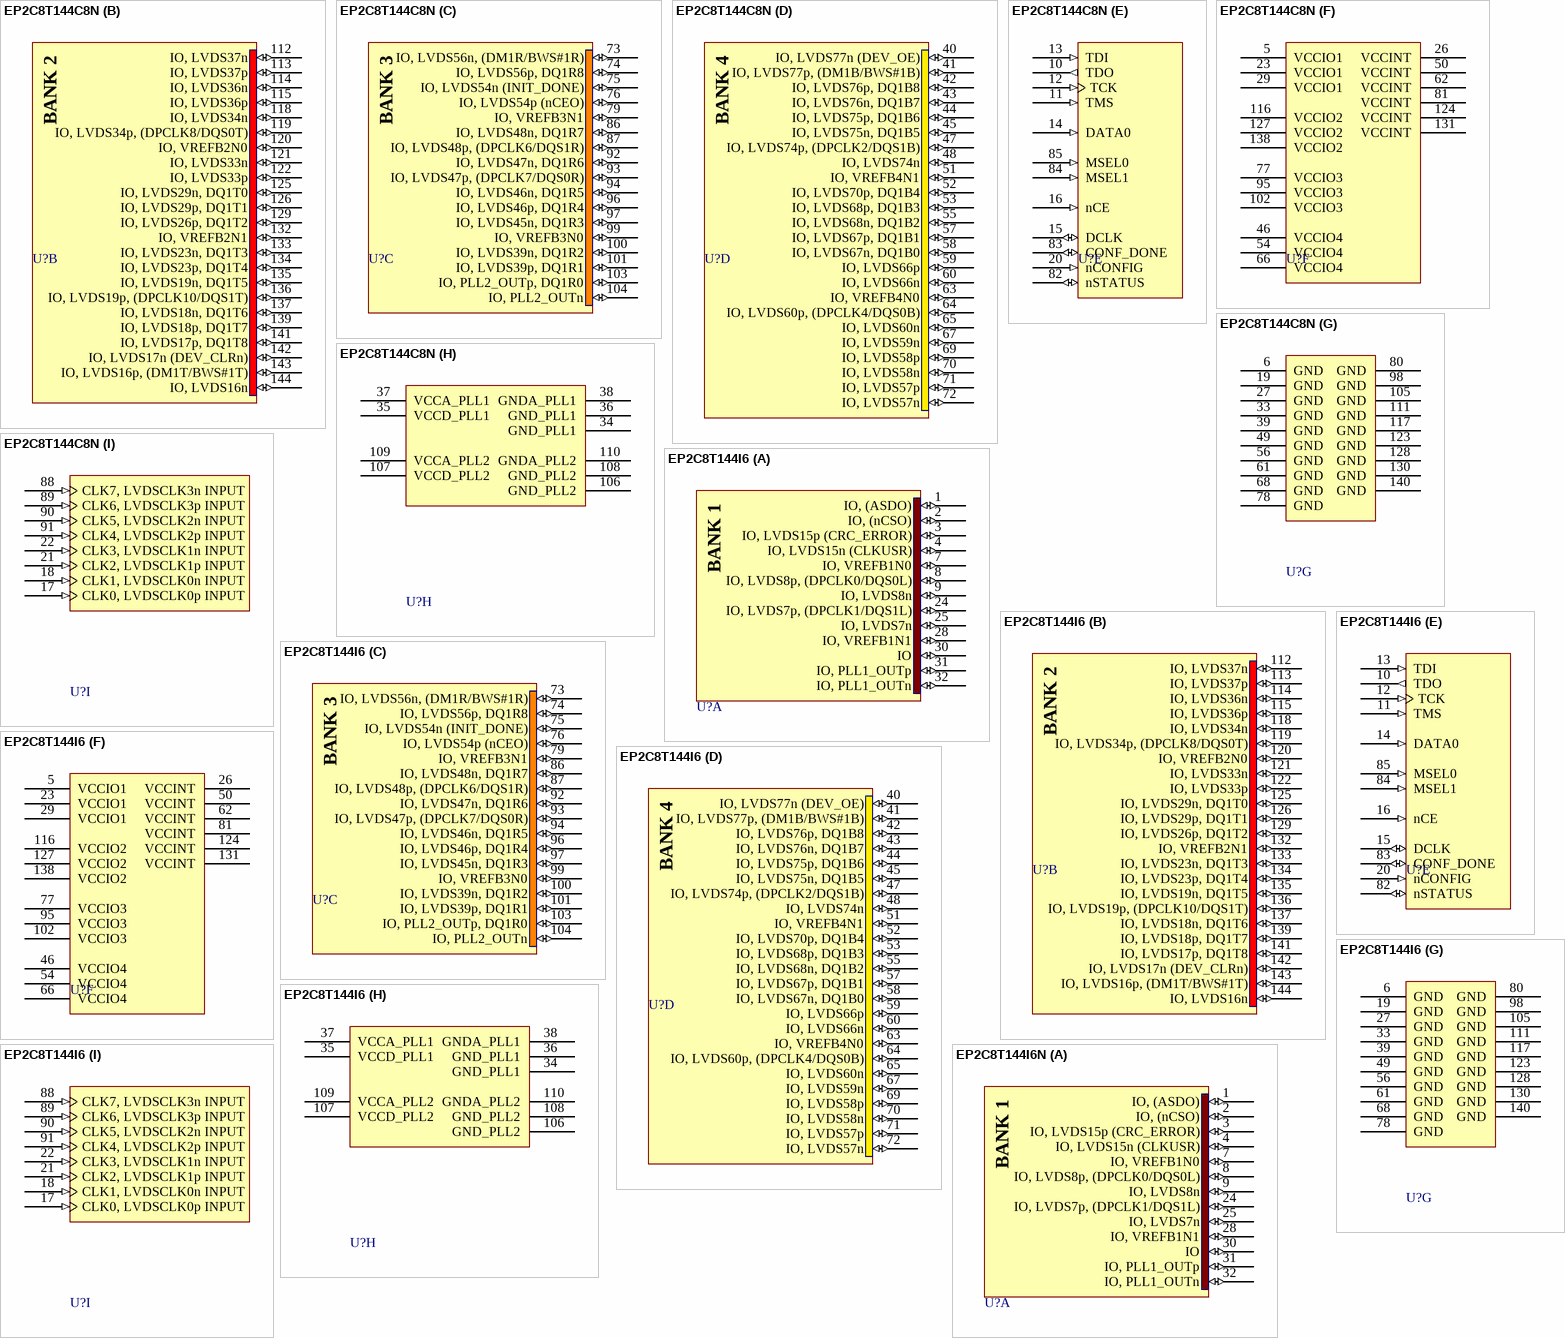
[diagram p62: symbols EP2C8T144C8N to EP2C8T144I6N]

## EP2C8T144C8N
designator U?
Cyclone II Family, 1.2V FPGA, 85 I/O Pins, 2 PLLs, 144-Pin TQFP, Speed Grade 8, Commercial Grade, Pb-Free; DatasheetVersion: ver3.3, Feb-2008; PackageVersion: ver16.3, Dec-2010; PackageReference: TQFP144; PackageDescription: 144-Pin Plastic Thin Quad Flat Pack (TQFP144) - Wire Bond; Code_JEDEC: MS-026-BFB; ComponentLink1Description: Manufacturer URL; ComponentLink1URL: http://www.altera.com/; ComponentLink2Description: Handbook; ComponentLink2URL: http://www.altera.com/literature/hb/cyc2/cyc2_cii5v1.pdf; ComponentLink3Description: Package Specification; ComponentLink3URL: http://www.altera.com/literature/ds/dspkg.pdf
footprint TQFP144_N (Thin QFP, 144-Leads, Body 20x20mm, Pitch 0.5mm, IPC Medium Density)
footprint TQFP144_L (Thin QFP, 144-Leads, Body 20x20mm, Pitch 0.5mm, IPC High Density)
footprint TQFP144_M (Thin QFP, 144-Leads, Body 20x20mm, Pitch 0.5mm, IPC Low Density)
part A pins: 1 IO, (ASDO) (io), 2 IO, (nCSO) (io), 3 IO, LVDS15p (CRC_ERROR) (io), 4 IO, LVDS15n (CLKUSR) (io), 7 IO, VREFB1N0 (io), 8 IO, LVDS8p, (DPCLK0/DQS0L) (io), 9 IO, LVDS8n (io), 24 IO, LVDS7p, (DPCLK1/DQS1L) (io), 25 IO, LVDS7n (io), 28 IO, VREFB1N1 (io), 30 IO (io), 31 IO, PLL1_OUTp (io), 32 IO, PLL1_OUTn (io)
part B pins: 112 IO, LVDS37n (io), 113 IO, LVDS37p (io), 114 IO, LVDS36n (io), 115 IO, LVDS36p (io), 118 IO, LVDS34n (io), 119 IO, LVDS34p, (DPCLK8/DQS0T) (io), 120 IO, VREFB2N0 (io), 121 IO, LVDS33n (io), 122 IO, LVDS33p (io), 125 IO, LVDS29n, DQ1T0 (io), 126 IO, LVDS29p, DQ1T1 (io), 129 IO, LVDS26p, DQ1T2 (io), 132 IO, VREFB2N1 (io), 133 IO, LVDS23n, DQ1T3 (io), 134 IO, LVDS23p, DQ1T4 (io), 135 IO, LVDS19n, DQ1T5 (io), 136 IO, LVDS19p, (DPCLK10/DQS1T) (io), 137 IO, LVDS18n, DQ1T6 (io), 139 IO, LVDS18p, DQ1T7 (io), 141 IO, LVDS17p, DQ1T8 (io), 142 IO, LVDS17n (DEV_CLRn) (io), 143 IO, LVDS16p, (DM1T/BWS#1T) (io), 144 IO, LVDS16n (io)
part C pins: 73 IO, LVDS56n, (DM1R/BWS#1R) (io), 74 IO, LVDS56p, DQ1R8 (io), 75 IO, LVDS54n (INIT_DONE) (io), 76 IO, LVDS54p (nCEO) (io), 79 IO, VREFB3N1 (io), 86 IO, LVDS48n, DQ1R7 (io), 87 IO, LVDS48p, (DPCLK6/DQS1R) (io), 92 IO, LVDS47n, DQ1R6 (io), 93 IO, LVDS47p, (DPCLK7/DQS0R) (io), 94 IO, LVDS46n, DQ1R5 (io), 96 IO, LVDS46p, DQ1R4 (io), 97 IO, LVDS45n, DQ1R3 (io), 99 IO, VREFB3N0 (io), 100 IO, LVDS39n, DQ1R2 (io), 101 IO, LVDS39p, DQ1R1 (io), 103 IO, PLL2_OUTp, DQ1R0 (io), 104 IO, PLL2_OUTn (io)
part D pins: 40 IO, LVDS77n (DEV_OE) (io), 41 IO, LVDS77p, (DM1B/BWS#1B) (io), 42 IO, LVDS76p, DQ1B8 (io), 43 IO, LVDS76n, DQ1B7 (io), 44 IO, LVDS75p, DQ1B6 (io), 45 IO, LVDS75n, DQ1B5 (io), 47 IO, LVDS74p, (DPCLK2/DQS1B) (io), 48 IO, LVDS74n (io), 51 IO, VREFB4N1 (io), 52 IO, LVDS70p, DQ1B4 (io), 53 IO, LVDS68p, DQ1B3 (io), 55 IO, LVDS68n, DQ1B2 (io), 57 IO, LVDS67p, DQ1B1 (io), 58 IO, LVDS67n, DQ1B0 (io), 59 IO, LVDS66p (io), 60 IO, LVDS66n (io), 63 IO, VREFB4N0 (io), 64 IO, LVDS60p, (DPCLK4/DQS0B) (io), 65 IO, LVDS60n (io), 67 IO, LVDS59n (io), 69 IO, LVDS58p (io), 70 IO, LVDS58n (io), 71 IO, LVDS57p (io), 72 IO, LVDS57n (io)
part E pins: 10 TDO (out), 11 TMS (in), 12 TCK (in), 13 TDI (in), 14 DATA0 (in), 15 DCLK (io), 16 nCE (in), 20 nCONFIG (in), 82 nSTATUS (io), 83 CONF_DONE (io), 84 MSEL1 (in), 85 MSEL0 (in)
part F pins: 5 VCCIO1 (power), 23 VCCIO1 (power), 26 VCCINT (power), 29 VCCIO1 (power), 46 VCCIO4 (power), 50 VCCINT (power), 54 VCCIO4 (power), 62 VCCINT (power), 66 VCCIO4 (power), 77 VCCIO3 (power), 81 VCCINT (power), 95 VCCIO3 (power), 102 VCCIO3 (power), 116 VCCIO2 (power), 124 VCCINT (power), 127 VCCIO2 (power), 131 VCCINT (power), 138 VCCIO2 (power)
part G pins: 6 GND (power), 19 GND (power), 27 GND (power), 33 GND (power), 39 GND (power), 49 GND (power), 56 GND (power), 61 GND (power), 68 GND (power), 78 GND (power), 80 GND (power), 98 GND (power), 105 GND (power), 111 GND (power), 117 GND (power), 123 GND (power), 128 GND (power), 130 GND (power), 140 GND (power)
part H pins: 34 GND_PLL1 (power), 35 VCCD_PLL1 (power), 36 GND_PLL1 (power), 37 VCCA_PLL1 (power), 38 GNDA_PLL1 (power), 106 GND_PLL2 (power), 107 VCCD_PLL2 (power), 108 GND_PLL2 (power), 109 VCCA_PLL2 (power), 110 GNDA_PLL2 (power)
part I pins: 17 CLK0, LVDSCLK0p INPUT (in), 18 CLK1, LVDSCLK0n INPUT (in), 21 CLK2, LVDSCLK1p INPUT (in), 22 CLK3, LVDSCLK1n INPUT (in), 88 CLK7, LVDSCLK3n INPUT (in), 89 CLK6, LVDSCLK3p INPUT (in), 90 CLK5, LVDSCLK2n INPUT (in), 91 CLK4, LVDSCLK2p INPUT (in)
part A text: BANK 1
part B text: BANK 2
part C text: BANK 3
part D text: BANK 4

## EP2C8T144I6
designator U?
Cyclone II Family, 1.2V FPGA, 85 I/O Pins, 2 PLLs, 144-Pin TQFP, Speed Grade 6, Industrial Grade; DatasheetVersion: ver3.3, Feb-2008; PackageVersion: ver16.3, Dec-2010; PackageReference: TQFP144; PackageDescription: 144-Pin Plastic Thin Quad Flat Pack (TQFP144) - Wire Bond; Code_JEDEC: MS-026-BFB; ComponentLink1Description: Manufacturer URL; ComponentLink1URL: http://www.altera.com/; ComponentLink2Description: Handbook; ComponentLink2URL: http://www.altera.com/literature/hb/cyc2/cyc2_cii5v1.pdf; ComponentLink3Description: Package Specification; ComponentLink3URL: http://www.altera.com/literature/ds/dspkg.pdf
footprint TQFP144_N (Thin QFP, 144-Leads, Body 20x20mm, Pitch 0.5mm, IPC Medium Density)
footprint TQFP144_L (Thin QFP, 144-Leads, Body 20x20mm, Pitch 0.5mm, IPC High Density)
footprint TQFP144_M (Thin QFP, 144-Leads, Body 20x20mm, Pitch 0.5mm, IPC Low Density)
part A pins: 1 IO, (ASDO) (io), 2 IO, (nCSO) (io), 3 IO, LVDS15p (CRC_ERROR) (io), 4 IO, LVDS15n (CLKUSR) (io), 7 IO, VREFB1N0 (io), 8 IO, LVDS8p, (DPCLK0/DQS0L) (io), 9 IO, LVDS8n (io), 24 IO, LVDS7p, (DPCLK1/DQS1L) (io), 25 IO, LVDS7n (io), 28 IO, VREFB1N1 (io), 30 IO (io), 31 IO, PLL1_OUTp (io), 32 IO, PLL1_OUTn (io)
part B pins: 112 IO, LVDS37n (io), 113 IO, LVDS37p (io), 114 IO, LVDS36n (io), 115 IO, LVDS36p (io), 118 IO, LVDS34n (io), 119 IO, LVDS34p, (DPCLK8/DQS0T) (io), 120 IO, VREFB2N0 (io), 121 IO, LVDS33n (io), 122 IO, LVDS33p (io), 125 IO, LVDS29n, DQ1T0 (io), 126 IO, LVDS29p, DQ1T1 (io), 129 IO, LVDS26p, DQ1T2 (io), 132 IO, VREFB2N1 (io), 133 IO, LVDS23n, DQ1T3 (io), 134 IO, LVDS23p, DQ1T4 (io), 135 IO, LVDS19n, DQ1T5 (io), 136 IO, LVDS19p, (DPCLK10/DQS1T) (io), 137 IO, LVDS18n, DQ1T6 (io), 139 IO, LVDS18p, DQ1T7 (io), 141 IO, LVDS17p, DQ1T8 (io), 142 IO, LVDS17n (DEV_CLRn) (io), 143 IO, LVDS16p, (DM1T/BWS#1T) (io), 144 IO, LVDS16n (io)
part C pins: 73 IO, LVDS56n, (DM1R/BWS#1R) (io), 74 IO, LVDS56p, DQ1R8 (io), 75 IO, LVDS54n (INIT_DONE) (io), 76 IO, LVDS54p (nCEO) (io), 79 IO, VREFB3N1 (io), 86 IO, LVDS48n, DQ1R7 (io), 87 IO, LVDS48p, (DPCLK6/DQS1R) (io), 92 IO, LVDS47n, DQ1R6 (io), 93 IO, LVDS47p, (DPCLK7/DQS0R) (io), 94 IO, LVDS46n, DQ1R5 (io), 96 IO, LVDS46p, DQ1R4 (io), 97 IO, LVDS45n, DQ1R3 (io), 99 IO, VREFB3N0 (io), 100 IO, LVDS39n, DQ1R2 (io), 101 IO, LVDS39p, DQ1R1 (io), 103 IO, PLL2_OUTp, DQ1R0 (io), 104 IO, PLL2_OUTn (io)
part D pins: 40 IO, LVDS77n (DEV_OE) (io), 41 IO, LVDS77p, (DM1B/BWS#1B) (io), 42 IO, LVDS76p, DQ1B8 (io), 43 IO, LVDS76n, DQ1B7 (io), 44 IO, LVDS75p, DQ1B6 (io), 45 IO, LVDS75n, DQ1B5 (io), 47 IO, LVDS74p, (DPCLK2/DQS1B) (io), 48 IO, LVDS74n (io), 51 IO, VREFB4N1 (io), 52 IO, LVDS70p, DQ1B4 (io), 53 IO, LVDS68p, DQ1B3 (io), 55 IO, LVDS68n, DQ1B2 (io), 57 IO, LVDS67p, DQ1B1 (io), 58 IO, LVDS67n, DQ1B0 (io), 59 IO, LVDS66p (io), 60 IO, LVDS66n (io), 63 IO, VREFB4N0 (io), 64 IO, LVDS60p, (DPCLK4/DQS0B) (io), 65 IO, LVDS60n (io), 67 IO, LVDS59n (io), 69 IO, LVDS58p (io), 70 IO, LVDS58n (io), 71 IO, LVDS57p (io), 72 IO, LVDS57n (io)
part E pins: 10 TDO (out), 11 TMS (in), 12 TCK (in), 13 TDI (in), 14 DATA0 (in), 15 DCLK (io), 16 nCE (in), 20 nCONFIG (in), 82 nSTATUS (io), 83 CONF_DONE (io), 84 MSEL1 (in), 85 MSEL0 (in)
part F pins: 5 VCCIO1 (power), 23 VCCIO1 (power), 26 VCCINT (power), 29 VCCIO1 (power), 46 VCCIO4 (power), 50 VCCINT (power), 54 VCCIO4 (power), 62 VCCINT (power), 66 VCCIO4 (power), 77 VCCIO3 (power), 81 VCCINT (power), 95 VCCIO3 (power), 102 VCCIO3 (power), 116 VCCIO2 (power), 124 VCCINT (power), 127 VCCIO2 (power), 131 VCCINT (power), 138 VCCIO2 (power)
part G pins: 6 GND (power), 19 GND (power), 27 GND (power), 33 GND (power), 39 GND (power), 49 GND (power), 56 GND (power), 61 GND (power), 68 GND (power), 78 GND (power), 80 GND (power), 98 GND (power), 105 GND (power), 111 GND (power), 117 GND (power), 123 GND (power), 128 GND (power), 130 GND (power), 140 GND (power)
part H pins: 34 GND_PLL1 (power), 35 VCCD_PLL1 (power), 36 GND_PLL1 (power), 37 VCCA_PLL1 (power), 38 GNDA_PLL1 (power), 106 GND_PLL2 (power), 107 VCCD_PLL2 (power), 108 GND_PLL2 (power), 109 VCCA_PLL2 (power), 110 GNDA_PLL2 (power)
part I pins: 17 CLK0, LVDSCLK0p INPUT (in), 18 CLK1, LVDSCLK0n INPUT (in), 21 CLK2, LVDSCLK1p INPUT (in), 22 CLK3, LVDSCLK1n INPUT (in), 88 CLK7, LVDSCLK3n INPUT (in), 89 CLK6, LVDSCLK3p INPUT (in), 90 CLK5, LVDSCLK2n INPUT (in), 91 CLK4, LVDSCLK2p INPUT (in)
part A text: BANK 1
part B text: BANK 2
part C text: BANK 3
part D text: BANK 4

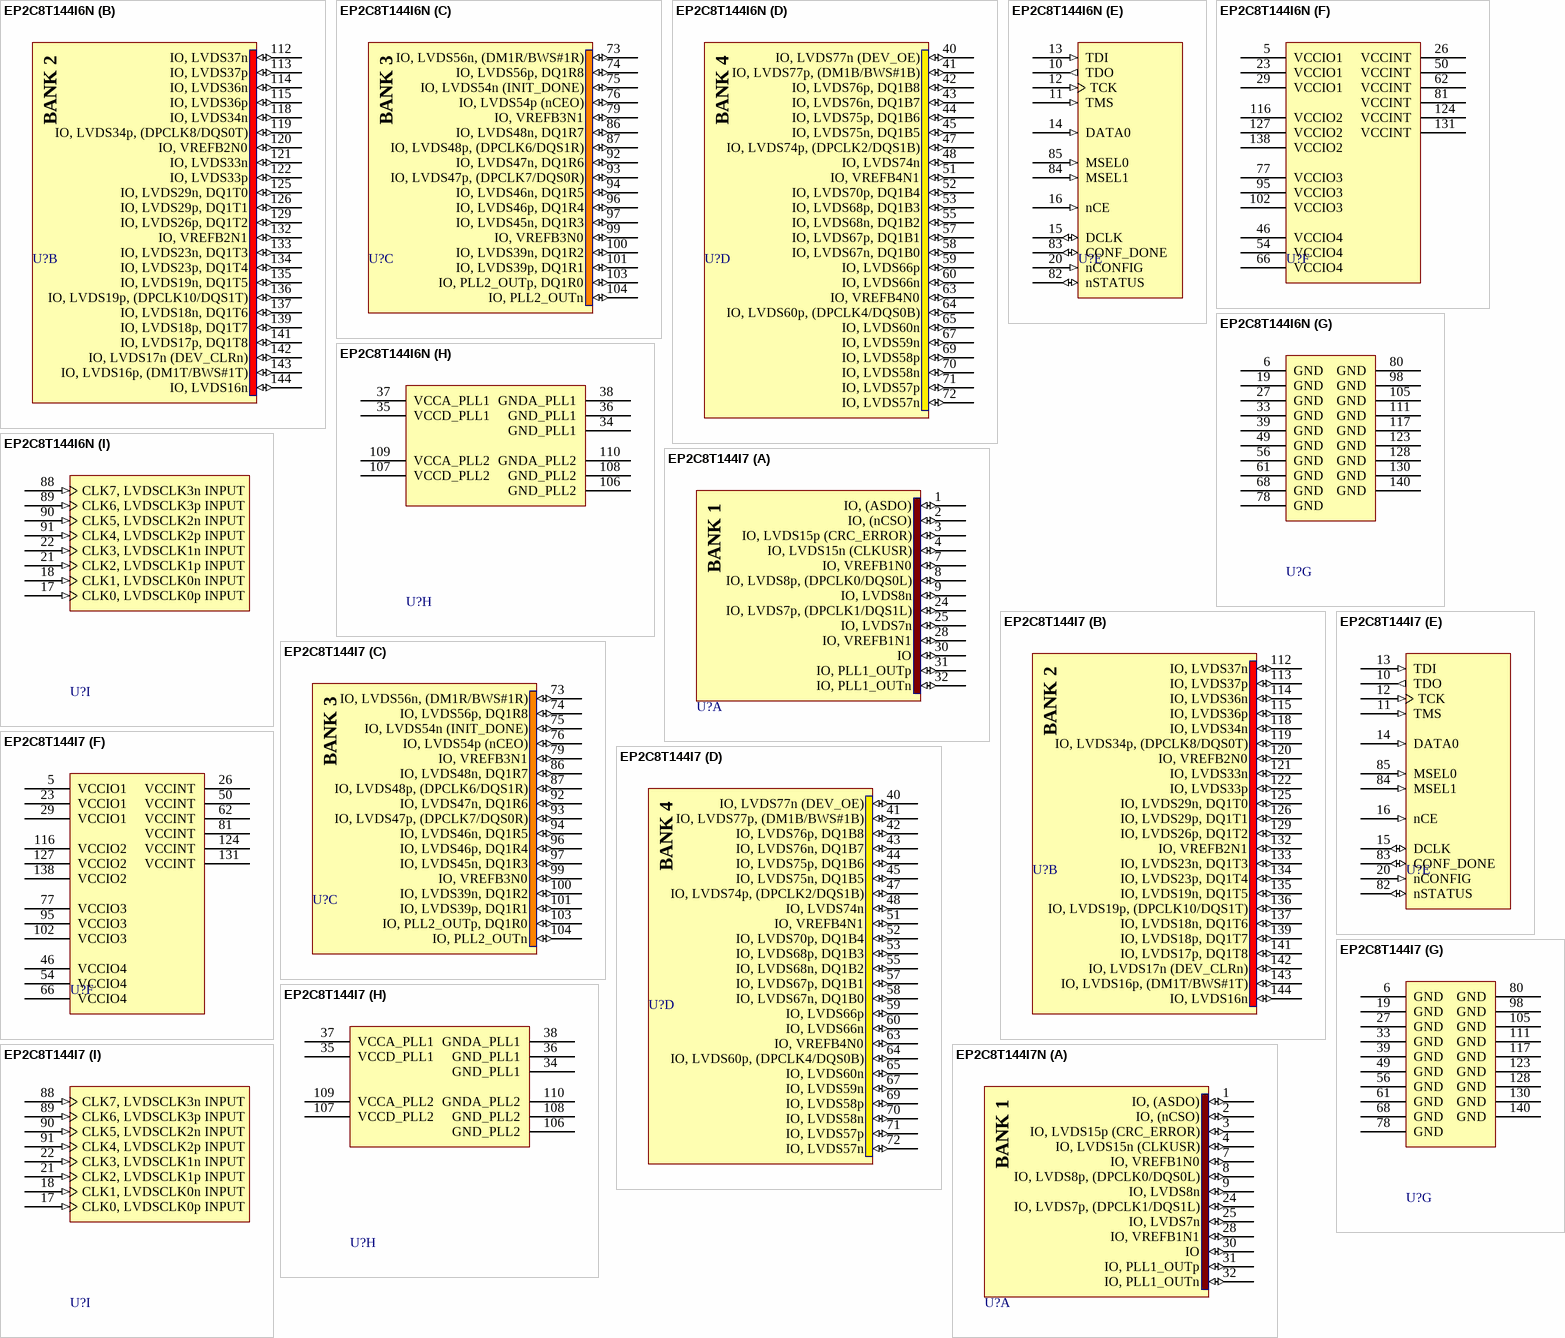
[diagram p63: symbols EP2C8T144I6N to EP2C8T144I7N]

## EP2C8T144I6N
designator U?
Cyclone II Family, 1.2V FPGA, 85 I/O Pins, 2 PLLs, 144-Pin TQFP, Speed Grade 6, Industrial Grade, Pb-Free; DatasheetVersion: ver3.3, Feb-2008; PackageVersion: ver16.3, Dec-2010; PackageReference: TQFP144; PackageDescription: 144-Pin Plastic Thin Quad Flat Pack (TQFP144) - Wire Bond; Code_JEDEC: MS-026-BFB; ComponentLink1Description: Manufacturer URL; ComponentLink1URL: http://www.altera.com/; ComponentLink2Description: Handbook; ComponentLink2URL: http://www.altera.com/literature/hb/cyc2/cyc2_cii5v1.pdf; ComponentLink3Description: Package Specification; ComponentLink3URL: http://www.altera.com/literature/ds/dspkg.pdf
footprint TQFP144_N (Thin QFP, 144-Leads, Body 20x20mm, Pitch 0.5mm, IPC Medium Density)
footprint TQFP144_L (Thin QFP, 144-Leads, Body 20x20mm, Pitch 0.5mm, IPC High Density)
footprint TQFP144_M (Thin QFP, 144-Leads, Body 20x20mm, Pitch 0.5mm, IPC Low Density)
part A pins: 1 IO, (ASDO) (io), 2 IO, (nCSO) (io), 3 IO, LVDS15p (CRC_ERROR) (io), 4 IO, LVDS15n (CLKUSR) (io), 7 IO, VREFB1N0 (io), 8 IO, LVDS8p, (DPCLK0/DQS0L) (io), 9 IO, LVDS8n (io), 24 IO, LVDS7p, (DPCLK1/DQS1L) (io), 25 IO, LVDS7n (io), 28 IO, VREFB1N1 (io), 30 IO (io), 31 IO, PLL1_OUTp (io), 32 IO, PLL1_OUTn (io)
part B pins: 112 IO, LVDS37n (io), 113 IO, LVDS37p (io), 114 IO, LVDS36n (io), 115 IO, LVDS36p (io), 118 IO, LVDS34n (io), 119 IO, LVDS34p, (DPCLK8/DQS0T) (io), 120 IO, VREFB2N0 (io), 121 IO, LVDS33n (io), 122 IO, LVDS33p (io), 125 IO, LVDS29n, DQ1T0 (io), 126 IO, LVDS29p, DQ1T1 (io), 129 IO, LVDS26p, DQ1T2 (io), 132 IO, VREFB2N1 (io), 133 IO, LVDS23n, DQ1T3 (io), 134 IO, LVDS23p, DQ1T4 (io), 135 IO, LVDS19n, DQ1T5 (io), 136 IO, LVDS19p, (DPCLK10/DQS1T) (io), 137 IO, LVDS18n, DQ1T6 (io), 139 IO, LVDS18p, DQ1T7 (io), 141 IO, LVDS17p, DQ1T8 (io), 142 IO, LVDS17n (DEV_CLRn) (io), 143 IO, LVDS16p, (DM1T/BWS#1T) (io), 144 IO, LVDS16n (io)
part C pins: 73 IO, LVDS56n, (DM1R/BWS#1R) (io), 74 IO, LVDS56p, DQ1R8 (io), 75 IO, LVDS54n (INIT_DONE) (io), 76 IO, LVDS54p (nCEO) (io), 79 IO, VREFB3N1 (io), 86 IO, LVDS48n, DQ1R7 (io), 87 IO, LVDS48p, (DPCLK6/DQS1R) (io), 92 IO, LVDS47n, DQ1R6 (io), 93 IO, LVDS47p, (DPCLK7/DQS0R) (io), 94 IO, LVDS46n, DQ1R5 (io), 96 IO, LVDS46p, DQ1R4 (io), 97 IO, LVDS45n, DQ1R3 (io), 99 IO, VREFB3N0 (io), 100 IO, LVDS39n, DQ1R2 (io), 101 IO, LVDS39p, DQ1R1 (io), 103 IO, PLL2_OUTp, DQ1R0 (io), 104 IO, PLL2_OUTn (io)
part D pins: 40 IO, LVDS77n (DEV_OE) (io), 41 IO, LVDS77p, (DM1B/BWS#1B) (io), 42 IO, LVDS76p, DQ1B8 (io), 43 IO, LVDS76n, DQ1B7 (io), 44 IO, LVDS75p, DQ1B6 (io), 45 IO, LVDS75n, DQ1B5 (io), 47 IO, LVDS74p, (DPCLK2/DQS1B) (io), 48 IO, LVDS74n (io), 51 IO, VREFB4N1 (io), 52 IO, LVDS70p, DQ1B4 (io), 53 IO, LVDS68p, DQ1B3 (io), 55 IO, LVDS68n, DQ1B2 (io), 57 IO, LVDS67p, DQ1B1 (io), 58 IO, LVDS67n, DQ1B0 (io), 59 IO, LVDS66p (io), 60 IO, LVDS66n (io), 63 IO, VREFB4N0 (io), 64 IO, LVDS60p, (DPCLK4/DQS0B) (io), 65 IO, LVDS60n (io), 67 IO, LVDS59n (io), 69 IO, LVDS58p (io), 70 IO, LVDS58n (io), 71 IO, LVDS57p (io), 72 IO, LVDS57n (io)
part E pins: 10 TDO (out), 11 TMS (in), 12 TCK (in), 13 TDI (in), 14 DATA0 (in), 15 DCLK (io), 16 nCE (in), 20 nCONFIG (in), 82 nSTATUS (io), 83 CONF_DONE (io), 84 MSEL1 (in), 85 MSEL0 (in)
part F pins: 5 VCCIO1 (power), 23 VCCIO1 (power), 26 VCCINT (power), 29 VCCIO1 (power), 46 VCCIO4 (power), 50 VCCINT (power), 54 VCCIO4 (power), 62 VCCINT (power), 66 VCCIO4 (power), 77 VCCIO3 (power), 81 VCCINT (power), 95 VCCIO3 (power), 102 VCCIO3 (power), 116 VCCIO2 (power), 124 VCCINT (power), 127 VCCIO2 (power), 131 VCCINT (power), 138 VCCIO2 (power)
part G pins: 6 GND (power), 19 GND (power), 27 GND (power), 33 GND (power), 39 GND (power), 49 GND (power), 56 GND (power), 61 GND (power), 68 GND (power), 78 GND (power), 80 GND (power), 98 GND (power), 105 GND (power), 111 GND (power), 117 GND (power), 123 GND (power), 128 GND (power), 130 GND (power), 140 GND (power)
part H pins: 34 GND_PLL1 (power), 35 VCCD_PLL1 (power), 36 GND_PLL1 (power), 37 VCCA_PLL1 (power), 38 GNDA_PLL1 (power), 106 GND_PLL2 (power), 107 VCCD_PLL2 (power), 108 GND_PLL2 (power), 109 VCCA_PLL2 (power), 110 GNDA_PLL2 (power)
part I pins: 17 CLK0, LVDSCLK0p INPUT (in), 18 CLK1, LVDSCLK0n INPUT (in), 21 CLK2, LVDSCLK1p INPUT (in), 22 CLK3, LVDSCLK1n INPUT (in), 88 CLK7, LVDSCLK3n INPUT (in), 89 CLK6, LVDSCLK3p INPUT (in), 90 CLK5, LVDSCLK2n INPUT (in), 91 CLK4, LVDSCLK2p INPUT (in)
part A text: BANK 1
part B text: BANK 2
part C text: BANK 3
part D text: BANK 4

## EP2C8T144I7
designator U?
Cyclone II Family, 1.2V FPGA, 85 I/O Pins, 2 PLLs, 144-Pin TQFP, Speed Grade 7, Industrial Grade; DatasheetVersion: ver3.3, Feb-2008; PackageVersion: ver16.3, Dec-2010; PackageReference: TQFP144; PackageDescription: 144-Pin Plastic Thin Quad Flat Pack (TQFP144) - Wire Bond; Code_JEDEC: MS-026-BFB; ComponentLink1Description: Manufacturer URL; ComponentLink1URL: http://www.altera.com/; ComponentLink2Description: Handbook; ComponentLink2URL: http://www.altera.com/literature/hb/cyc2/cyc2_cii5v1.pdf; ComponentLink3Description: Package Specification; ComponentLink3URL: http://www.altera.com/literature/ds/dspkg.pdf
footprint TQFP144_N (Thin QFP, 144-Leads, Body 20x20mm, Pitch 0.5mm, IPC Medium Density)
footprint TQFP144_L (Thin QFP, 144-Leads, Body 20x20mm, Pitch 0.5mm, IPC High Density)
footprint TQFP144_M (Thin QFP, 144-Leads, Body 20x20mm, Pitch 0.5mm, IPC Low Density)
part A pins: 1 IO, (ASDO) (io), 2 IO, (nCSO) (io), 3 IO, LVDS15p (CRC_ERROR) (io), 4 IO, LVDS15n (CLKUSR) (io), 7 IO, VREFB1N0 (io), 8 IO, LVDS8p, (DPCLK0/DQS0L) (io), 9 IO, LVDS8n (io), 24 IO, LVDS7p, (DPCLK1/DQS1L) (io), 25 IO, LVDS7n (io), 28 IO, VREFB1N1 (io), 30 IO (io), 31 IO, PLL1_OUTp (io), 32 IO, PLL1_OUTn (io)
part B pins: 112 IO, LVDS37n (io), 113 IO, LVDS37p (io), 114 IO, LVDS36n (io), 115 IO, LVDS36p (io), 118 IO, LVDS34n (io), 119 IO, LVDS34p, (DPCLK8/DQS0T) (io), 120 IO, VREFB2N0 (io), 121 IO, LVDS33n (io), 122 IO, LVDS33p (io), 125 IO, LVDS29n, DQ1T0 (io), 126 IO, LVDS29p, DQ1T1 (io), 129 IO, LVDS26p, DQ1T2 (io), 132 IO, VREFB2N1 (io), 133 IO, LVDS23n, DQ1T3 (io), 134 IO, LVDS23p, DQ1T4 (io), 135 IO, LVDS19n, DQ1T5 (io), 136 IO, LVDS19p, (DPCLK10/DQS1T) (io), 137 IO, LVDS18n, DQ1T6 (io), 139 IO, LVDS18p, DQ1T7 (io), 141 IO, LVDS17p, DQ1T8 (io), 142 IO, LVDS17n (DEV_CLRn) (io), 143 IO, LVDS16p, (DM1T/BWS#1T) (io), 144 IO, LVDS16n (io)
part C pins: 73 IO, LVDS56n, (DM1R/BWS#1R) (io), 74 IO, LVDS56p, DQ1R8 (io), 75 IO, LVDS54n (INIT_DONE) (io), 76 IO, LVDS54p (nCEO) (io), 79 IO, VREFB3N1 (io), 86 IO, LVDS48n, DQ1R7 (io), 87 IO, LVDS48p, (DPCLK6/DQS1R) (io), 92 IO, LVDS47n, DQ1R6 (io), 93 IO, LVDS47p, (DPCLK7/DQS0R) (io), 94 IO, LVDS46n, DQ1R5 (io), 96 IO, LVDS46p, DQ1R4 (io), 97 IO, LVDS45n, DQ1R3 (io), 99 IO, VREFB3N0 (io), 100 IO, LVDS39n, DQ1R2 (io), 101 IO, LVDS39p, DQ1R1 (io), 103 IO, PLL2_OUTp, DQ1R0 (io), 104 IO, PLL2_OUTn (io)
part D pins: 40 IO, LVDS77n (DEV_OE) (io), 41 IO, LVDS77p, (DM1B/BWS#1B) (io), 42 IO, LVDS76p, DQ1B8 (io), 43 IO, LVDS76n, DQ1B7 (io), 44 IO, LVDS75p, DQ1B6 (io), 45 IO, LVDS75n, DQ1B5 (io), 47 IO, LVDS74p, (DPCLK2/DQS1B) (io), 48 IO, LVDS74n (io), 51 IO, VREFB4N1 (io), 52 IO, LVDS70p, DQ1B4 (io), 53 IO, LVDS68p, DQ1B3 (io), 55 IO, LVDS68n, DQ1B2 (io), 57 IO, LVDS67p, DQ1B1 (io), 58 IO, LVDS67n, DQ1B0 (io), 59 IO, LVDS66p (io), 60 IO, LVDS66n (io), 63 IO, VREFB4N0 (io), 64 IO, LVDS60p, (DPCLK4/DQS0B) (io), 65 IO, LVDS60n (io), 67 IO, LVDS59n (io), 69 IO, LVDS58p (io), 70 IO, LVDS58n (io), 71 IO, LVDS57p (io), 72 IO, LVDS57n (io)
part E pins: 10 TDO (out), 11 TMS (in), 12 TCK (in), 13 TDI (in), 14 DATA0 (in), 15 DCLK (io), 16 nCE (in), 20 nCONFIG (in), 82 nSTATUS (io), 83 CONF_DONE (io), 84 MSEL1 (in), 85 MSEL0 (in)
part F pins: 5 VCCIO1 (power), 23 VCCIO1 (power), 26 VCCINT (power), 29 VCCIO1 (power), 46 VCCIO4 (power), 50 VCCINT (power), 54 VCCIO4 (power), 62 VCCINT (power), 66 VCCIO4 (power), 77 VCCIO3 (power), 81 VCCINT (power), 95 VCCIO3 (power), 102 VCCIO3 (power), 116 VCCIO2 (power), 124 VCCINT (power), 127 VCCIO2 (power), 131 VCCINT (power), 138 VCCIO2 (power)
part G pins: 6 GND (power), 19 GND (power), 27 GND (power), 33 GND (power), 39 GND (power), 49 GND (power), 56 GND (power), 61 GND (power), 68 GND (power), 78 GND (power), 80 GND (power), 98 GND (power), 105 GND (power), 111 GND (power), 117 GND (power), 123 GND (power), 128 GND (power), 130 GND (power), 140 GND (power)
part H pins: 34 GND_PLL1 (power), 35 VCCD_PLL1 (power), 36 GND_PLL1 (power), 37 VCCA_PLL1 (power), 38 GNDA_PLL1 (power), 106 GND_PLL2 (power), 107 VCCD_PLL2 (power), 108 GND_PLL2 (power), 109 VCCA_PLL2 (power), 110 GNDA_PLL2 (power)
part I pins: 17 CLK0, LVDSCLK0p INPUT (in), 18 CLK1, LVDSCLK0n INPUT (in), 21 CLK2, LVDSCLK1p INPUT (in), 22 CLK3, LVDSCLK1n INPUT (in), 88 CLK7, LVDSCLK3n INPUT (in), 89 CLK6, LVDSCLK3p INPUT (in), 90 CLK5, LVDSCLK2n INPUT (in), 91 CLK4, LVDSCLK2p INPUT (in)
part A text: BANK 1
part B text: BANK 2
part C text: BANK 3
part D text: BANK 4

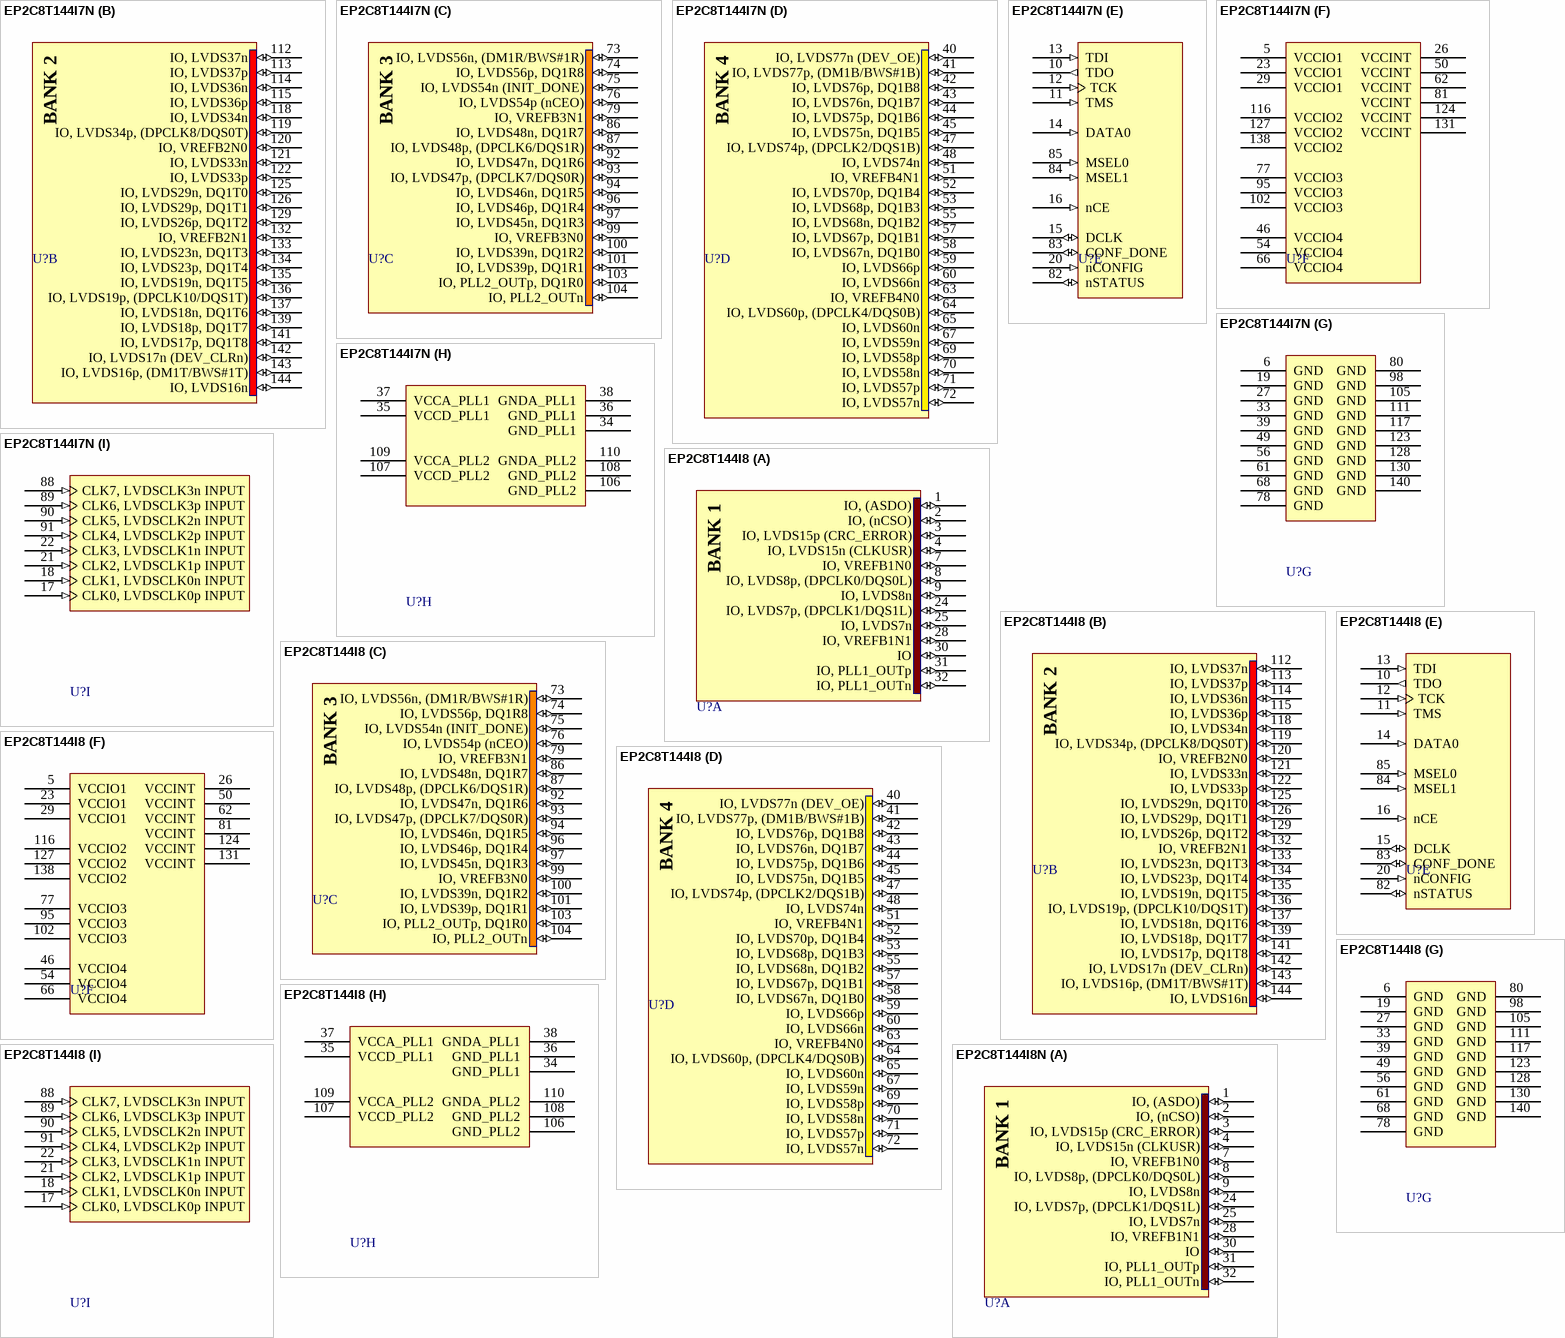
[diagram p64: symbols EP2C8T144I7N to EP2C8T144I8N]

## EP2C8T144I7N
designator U?
Cyclone II Family, 1.2V FPGA, 85 I/O Pins, 2 PLLs, 144-Pin TQFP, Speed Grade 7, Industrial Grade, Pb-Free; DatasheetVersion: ver3.3, Feb-2008; PackageVersion: ver16.3, Dec-2010; PackageReference: TQFP144; PackageDescription: 144-Pin Plastic Thin Quad Flat Pack (TQFP144) - Wire Bond; Code_JEDEC: MS-026-BFB; ComponentLink1Description: Manufacturer URL; ComponentLink1URL: http://www.altera.com/; ComponentLink2Description: Handbook; ComponentLink2URL: http://www.altera.com/literature/hb/cyc2/cyc2_cii5v1.pdf; ComponentLink3Description: Package Specification; ComponentLink3URL: http://www.altera.com/literature/ds/dspkg.pdf
footprint TQFP144_N (Thin QFP, 144-Leads, Body 20x20mm, Pitch 0.5mm, IPC Medium Density)
footprint TQFP144_L (Thin QFP, 144-Leads, Body 20x20mm, Pitch 0.5mm, IPC High Density)
footprint TQFP144_M (Thin QFP, 144-Leads, Body 20x20mm, Pitch 0.5mm, IPC Low Density)
part A pins: 1 IO, (ASDO) (io), 2 IO, (nCSO) (io), 3 IO, LVDS15p (CRC_ERROR) (io), 4 IO, LVDS15n (CLKUSR) (io), 7 IO, VREFB1N0 (io), 8 IO, LVDS8p, (DPCLK0/DQS0L) (io), 9 IO, LVDS8n (io), 24 IO, LVDS7p, (DPCLK1/DQS1L) (io), 25 IO, LVDS7n (io), 28 IO, VREFB1N1 (io), 30 IO (io), 31 IO, PLL1_OUTp (io), 32 IO, PLL1_OUTn (io)
part B pins: 112 IO, LVDS37n (io), 113 IO, LVDS37p (io), 114 IO, LVDS36n (io), 115 IO, LVDS36p (io), 118 IO, LVDS34n (io), 119 IO, LVDS34p, (DPCLK8/DQS0T) (io), 120 IO, VREFB2N0 (io), 121 IO, LVDS33n (io), 122 IO, LVDS33p (io), 125 IO, LVDS29n, DQ1T0 (io), 126 IO, LVDS29p, DQ1T1 (io), 129 IO, LVDS26p, DQ1T2 (io), 132 IO, VREFB2N1 (io), 133 IO, LVDS23n, DQ1T3 (io), 134 IO, LVDS23p, DQ1T4 (io), 135 IO, LVDS19n, DQ1T5 (io), 136 IO, LVDS19p, (DPCLK10/DQS1T) (io), 137 IO, LVDS18n, DQ1T6 (io), 139 IO, LVDS18p, DQ1T7 (io), 141 IO, LVDS17p, DQ1T8 (io), 142 IO, LVDS17n (DEV_CLRn) (io), 143 IO, LVDS16p, (DM1T/BWS#1T) (io), 144 IO, LVDS16n (io)
part C pins: 73 IO, LVDS56n, (DM1R/BWS#1R) (io), 74 IO, LVDS56p, DQ1R8 (io), 75 IO, LVDS54n (INIT_DONE) (io), 76 IO, LVDS54p (nCEO) (io), 79 IO, VREFB3N1 (io), 86 IO, LVDS48n, DQ1R7 (io), 87 IO, LVDS48p, (DPCLK6/DQS1R) (io), 92 IO, LVDS47n, DQ1R6 (io), 93 IO, LVDS47p, (DPCLK7/DQS0R) (io), 94 IO, LVDS46n, DQ1R5 (io), 96 IO, LVDS46p, DQ1R4 (io), 97 IO, LVDS45n, DQ1R3 (io), 99 IO, VREFB3N0 (io), 100 IO, LVDS39n, DQ1R2 (io), 101 IO, LVDS39p, DQ1R1 (io), 103 IO, PLL2_OUTp, DQ1R0 (io), 104 IO, PLL2_OUTn (io)
part D pins: 40 IO, LVDS77n (DEV_OE) (io), 41 IO, LVDS77p, (DM1B/BWS#1B) (io), 42 IO, LVDS76p, DQ1B8 (io), 43 IO, LVDS76n, DQ1B7 (io), 44 IO, LVDS75p, DQ1B6 (io), 45 IO, LVDS75n, DQ1B5 (io), 47 IO, LVDS74p, (DPCLK2/DQS1B) (io), 48 IO, LVDS74n (io), 51 IO, VREFB4N1 (io), 52 IO, LVDS70p, DQ1B4 (io), 53 IO, LVDS68p, DQ1B3 (io), 55 IO, LVDS68n, DQ1B2 (io), 57 IO, LVDS67p, DQ1B1 (io), 58 IO, LVDS67n, DQ1B0 (io), 59 IO, LVDS66p (io), 60 IO, LVDS66n (io), 63 IO, VREFB4N0 (io), 64 IO, LVDS60p, (DPCLK4/DQS0B) (io), 65 IO, LVDS60n (io), 67 IO, LVDS59n (io), 69 IO, LVDS58p (io), 70 IO, LVDS58n (io), 71 IO, LVDS57p (io), 72 IO, LVDS57n (io)
part E pins: 10 TDO (out), 11 TMS (in), 12 TCK (in), 13 TDI (in), 14 DATA0 (in), 15 DCLK (io), 16 nCE (in), 20 nCONFIG (in), 82 nSTATUS (io), 83 CONF_DONE (io), 84 MSEL1 (in), 85 MSEL0 (in)
part F pins: 5 VCCIO1 (power), 23 VCCIO1 (power), 26 VCCINT (power), 29 VCCIO1 (power), 46 VCCIO4 (power), 50 VCCINT (power), 54 VCCIO4 (power), 62 VCCINT (power), 66 VCCIO4 (power), 77 VCCIO3 (power), 81 VCCINT (power), 95 VCCIO3 (power), 102 VCCIO3 (power), 116 VCCIO2 (power), 124 VCCINT (power), 127 VCCIO2 (power), 131 VCCINT (power), 138 VCCIO2 (power)
part G pins: 6 GND (power), 19 GND (power), 27 GND (power), 33 GND (power), 39 GND (power), 49 GND (power), 56 GND (power), 61 GND (power), 68 GND (power), 78 GND (power), 80 GND (power), 98 GND (power), 105 GND (power), 111 GND (power), 117 GND (power), 123 GND (power), 128 GND (power), 130 GND (power), 140 GND (power)
part H pins: 34 GND_PLL1 (power), 35 VCCD_PLL1 (power), 36 GND_PLL1 (power), 37 VCCA_PLL1 (power), 38 GNDA_PLL1 (power), 106 GND_PLL2 (power), 107 VCCD_PLL2 (power), 108 GND_PLL2 (power), 109 VCCA_PLL2 (power), 110 GNDA_PLL2 (power)
part I pins: 17 CLK0, LVDSCLK0p INPUT (in), 18 CLK1, LVDSCLK0n INPUT (in), 21 CLK2, LVDSCLK1p INPUT (in), 22 CLK3, LVDSCLK1n INPUT (in), 88 CLK7, LVDSCLK3n INPUT (in), 89 CLK6, LVDSCLK3p INPUT (in), 90 CLK5, LVDSCLK2n INPUT (in), 91 CLK4, LVDSCLK2p INPUT (in)
part A text: BANK 1
part B text: BANK 2
part C text: BANK 3
part D text: BANK 4

## EP2C8T144I8
designator U?
Cyclone II Family, 1.2V FPGA, 85 I/O Pins, 2 PLLs, 144-Pin TQFP, Speed Grade 8, Industrial Grade; DatasheetVersion: ver3.3, Feb-2008; PackageVersion: ver16.3, Dec-2010; PackageReference: TQFP144; PackageDescription: 144-Pin Plastic Thin Quad Flat Pack (TQFP144) - Wire Bond; Code_JEDEC: MS-026-BFB; ComponentLink1Description: Manufacturer URL; ComponentLink1URL: http://www.altera.com/; ComponentLink2Description: Handbook; ComponentLink2URL: http://www.altera.com/literature/hb/cyc2/cyc2_cii5v1.pdf; ComponentLink3Description: Package Specification; ComponentLink3URL: http://www.altera.com/literature/ds/dspkg.pdf
footprint TQFP144_N (Thin QFP, 144-Leads, Body 20x20mm, Pitch 0.5mm, IPC Medium Density)
footprint TQFP144_L (Thin QFP, 144-Leads, Body 20x20mm, Pitch 0.5mm, IPC High Density)
footprint TQFP144_M (Thin QFP, 144-Leads, Body 20x20mm, Pitch 0.5mm, IPC Low Density)
part A pins: 1 IO, (ASDO) (io), 2 IO, (nCSO) (io), 3 IO, LVDS15p (CRC_ERROR) (io), 4 IO, LVDS15n (CLKUSR) (io), 7 IO, VREFB1N0 (io), 8 IO, LVDS8p, (DPCLK0/DQS0L) (io), 9 IO, LVDS8n (io), 24 IO, LVDS7p, (DPCLK1/DQS1L) (io), 25 IO, LVDS7n (io), 28 IO, VREFB1N1 (io), 30 IO (io), 31 IO, PLL1_OUTp (io), 32 IO, PLL1_OUTn (io)
part B pins: 112 IO, LVDS37n (io), 113 IO, LVDS37p (io), 114 IO, LVDS36n (io), 115 IO, LVDS36p (io), 118 IO, LVDS34n (io), 119 IO, LVDS34p, (DPCLK8/DQS0T) (io), 120 IO, VREFB2N0 (io), 121 IO, LVDS33n (io), 122 IO, LVDS33p (io), 125 IO, LVDS29n, DQ1T0 (io), 126 IO, LVDS29p, DQ1T1 (io), 129 IO, LVDS26p, DQ1T2 (io), 132 IO, VREFB2N1 (io), 133 IO, LVDS23n, DQ1T3 (io), 134 IO, LVDS23p, DQ1T4 (io), 135 IO, LVDS19n, DQ1T5 (io), 136 IO, LVDS19p, (DPCLK10/DQS1T) (io), 137 IO, LVDS18n, DQ1T6 (io), 139 IO, LVDS18p, DQ1T7 (io), 141 IO, LVDS17p, DQ1T8 (io), 142 IO, LVDS17n (DEV_CLRn) (io), 143 IO, LVDS16p, (DM1T/BWS#1T) (io), 144 IO, LVDS16n (io)
part C pins: 73 IO, LVDS56n, (DM1R/BWS#1R) (io), 74 IO, LVDS56p, DQ1R8 (io), 75 IO, LVDS54n (INIT_DONE) (io), 76 IO, LVDS54p (nCEO) (io), 79 IO, VREFB3N1 (io), 86 IO, LVDS48n, DQ1R7 (io), 87 IO, LVDS48p, (DPCLK6/DQS1R) (io), 92 IO, LVDS47n, DQ1R6 (io), 93 IO, LVDS47p, (DPCLK7/DQS0R) (io), 94 IO, LVDS46n, DQ1R5 (io), 96 IO, LVDS46p, DQ1R4 (io), 97 IO, LVDS45n, DQ1R3 (io), 99 IO, VREFB3N0 (io), 100 IO, LVDS39n, DQ1R2 (io), 101 IO, LVDS39p, DQ1R1 (io), 103 IO, PLL2_OUTp, DQ1R0 (io), 104 IO, PLL2_OUTn (io)
part D pins: 40 IO, LVDS77n (DEV_OE) (io), 41 IO, LVDS77p, (DM1B/BWS#1B) (io), 42 IO, LVDS76p, DQ1B8 (io), 43 IO, LVDS76n, DQ1B7 (io), 44 IO, LVDS75p, DQ1B6 (io), 45 IO, LVDS75n, DQ1B5 (io), 47 IO, LVDS74p, (DPCLK2/DQS1B) (io), 48 IO, LVDS74n (io), 51 IO, VREFB4N1 (io), 52 IO, LVDS70p, DQ1B4 (io), 53 IO, LVDS68p, DQ1B3 (io), 55 IO, LVDS68n, DQ1B2 (io), 57 IO, LVDS67p, DQ1B1 (io), 58 IO, LVDS67n, DQ1B0 (io), 59 IO, LVDS66p (io), 60 IO, LVDS66n (io), 63 IO, VREFB4N0 (io), 64 IO, LVDS60p, (DPCLK4/DQS0B) (io), 65 IO, LVDS60n (io), 67 IO, LVDS59n (io), 69 IO, LVDS58p (io), 70 IO, LVDS58n (io), 71 IO, LVDS57p (io), 72 IO, LVDS57n (io)
part E pins: 10 TDO (out), 11 TMS (in), 12 TCK (in), 13 TDI (in), 14 DATA0 (in), 15 DCLK (io), 16 nCE (in), 20 nCONFIG (in), 82 nSTATUS (io), 83 CONF_DONE (io), 84 MSEL1 (in), 85 MSEL0 (in)
part F pins: 5 VCCIO1 (power), 23 VCCIO1 (power), 26 VCCINT (power), 29 VCCIO1 (power), 46 VCCIO4 (power), 50 VCCINT (power), 54 VCCIO4 (power), 62 VCCINT (power), 66 VCCIO4 (power), 77 VCCIO3 (power), 81 VCCINT (power), 95 VCCIO3 (power), 102 VCCIO3 (power), 116 VCCIO2 (power), 124 VCCINT (power), 127 VCCIO2 (power), 131 VCCINT (power), 138 VCCIO2 (power)
part G pins: 6 GND (power), 19 GND (power), 27 GND (power), 33 GND (power), 39 GND (power), 49 GND (power), 56 GND (power), 61 GND (power), 68 GND (power), 78 GND (power), 80 GND (power), 98 GND (power), 105 GND (power), 111 GND (power), 117 GND (power), 123 GND (power), 128 GND (power), 130 GND (power), 140 GND (power)
part H pins: 34 GND_PLL1 (power), 35 VCCD_PLL1 (power), 36 GND_PLL1 (power), 37 VCCA_PLL1 (power), 38 GNDA_PLL1 (power), 106 GND_PLL2 (power), 107 VCCD_PLL2 (power), 108 GND_PLL2 (power), 109 VCCA_PLL2 (power), 110 GNDA_PLL2 (power)
part I pins: 17 CLK0, LVDSCLK0p INPUT (in), 18 CLK1, LVDSCLK0n INPUT (in), 21 CLK2, LVDSCLK1p INPUT (in), 22 CLK3, LVDSCLK1n INPUT (in), 88 CLK7, LVDSCLK3n INPUT (in), 89 CLK6, LVDSCLK3p INPUT (in), 90 CLK5, LVDSCLK2n INPUT (in), 91 CLK4, LVDSCLK2p INPUT (in)
part A text: BANK 1
part B text: BANK 2
part C text: BANK 3
part D text: BANK 4

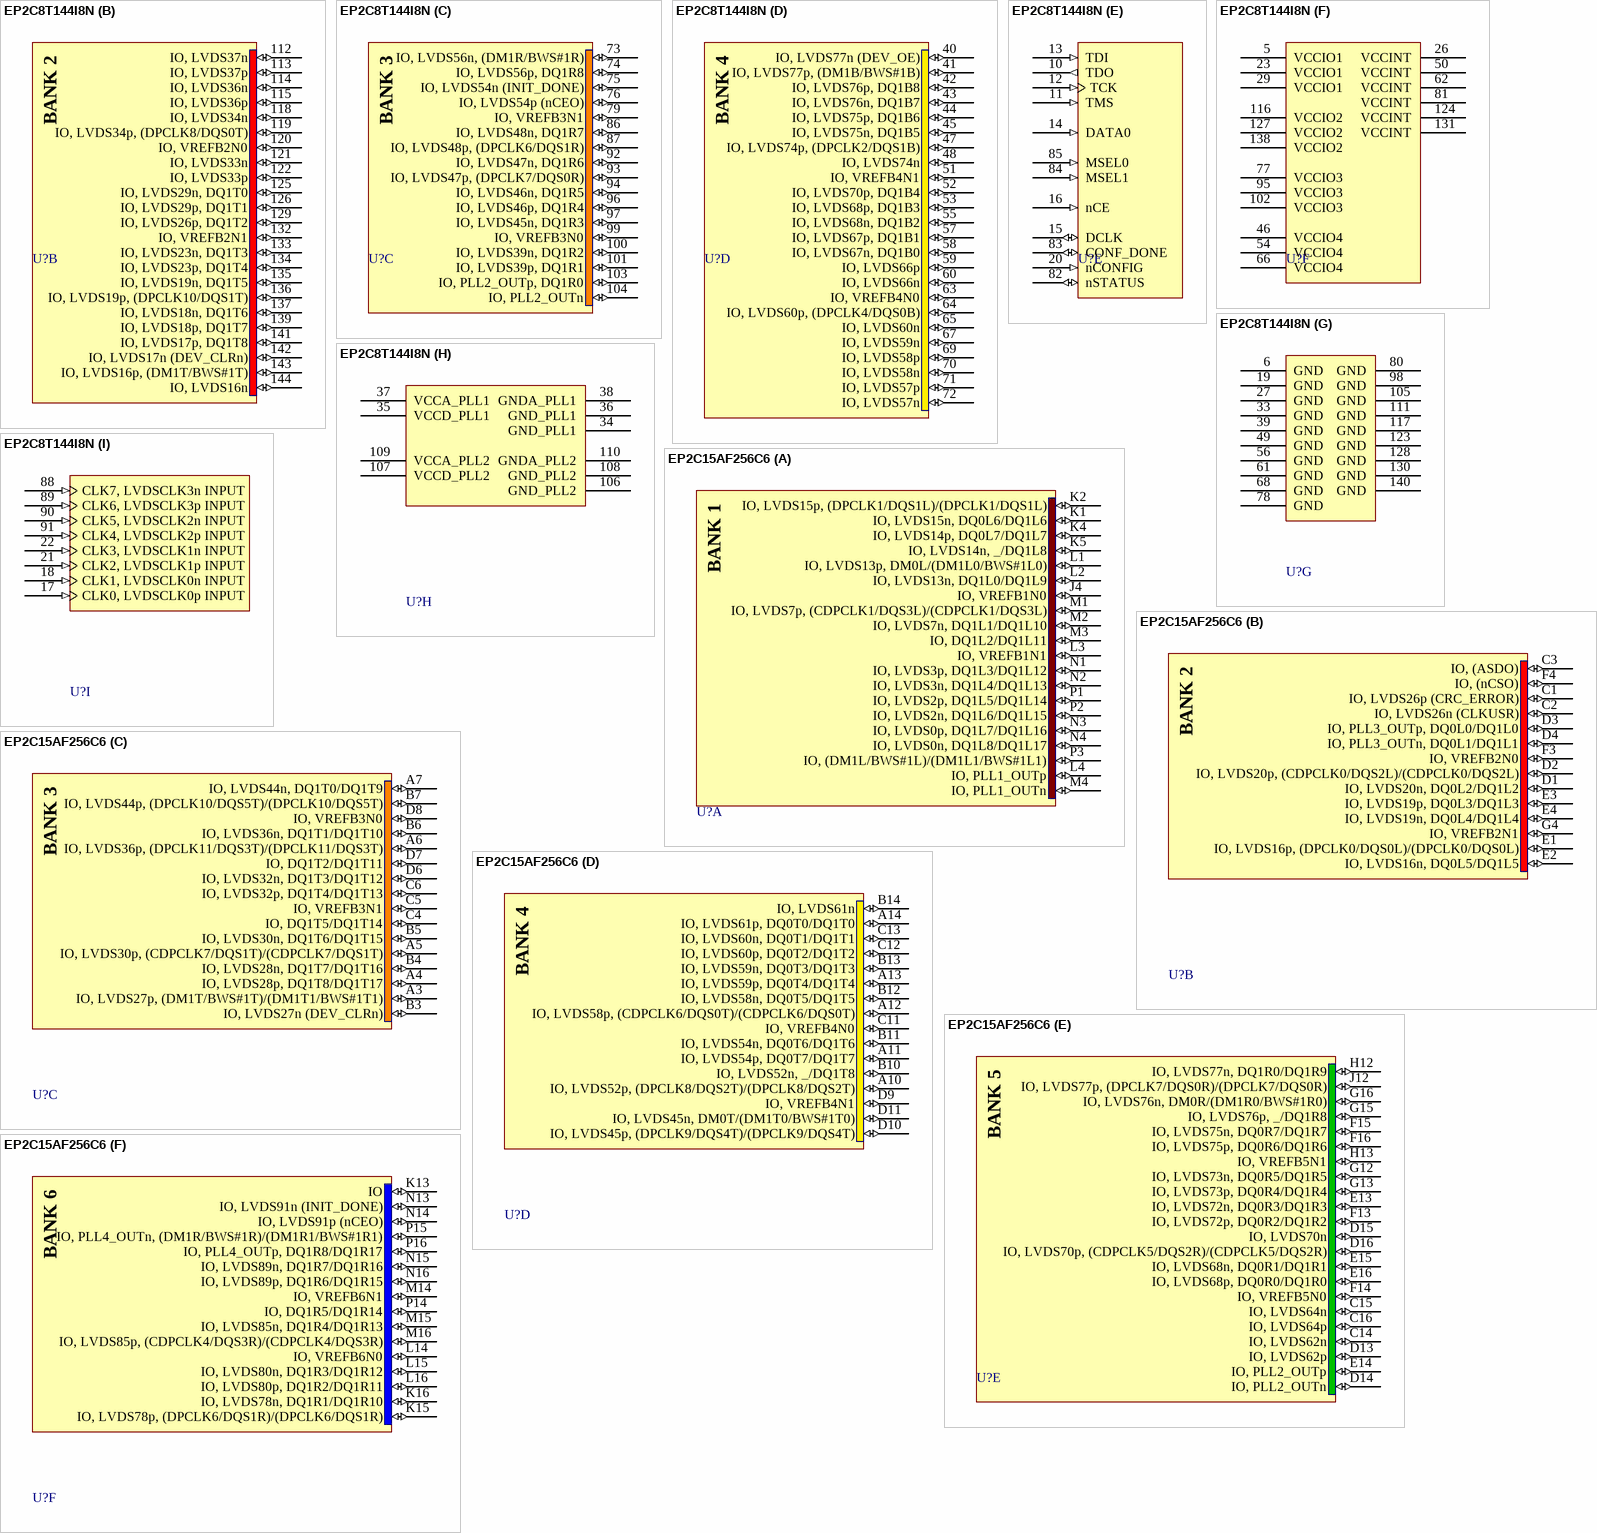
[diagram p65: symbols EP2C8T144I8N to EP2C15AF256C6]